# Altium schematic symbol library MCU_Texas_MSP430.SchLib: 361 symbols (part 3 of 9)
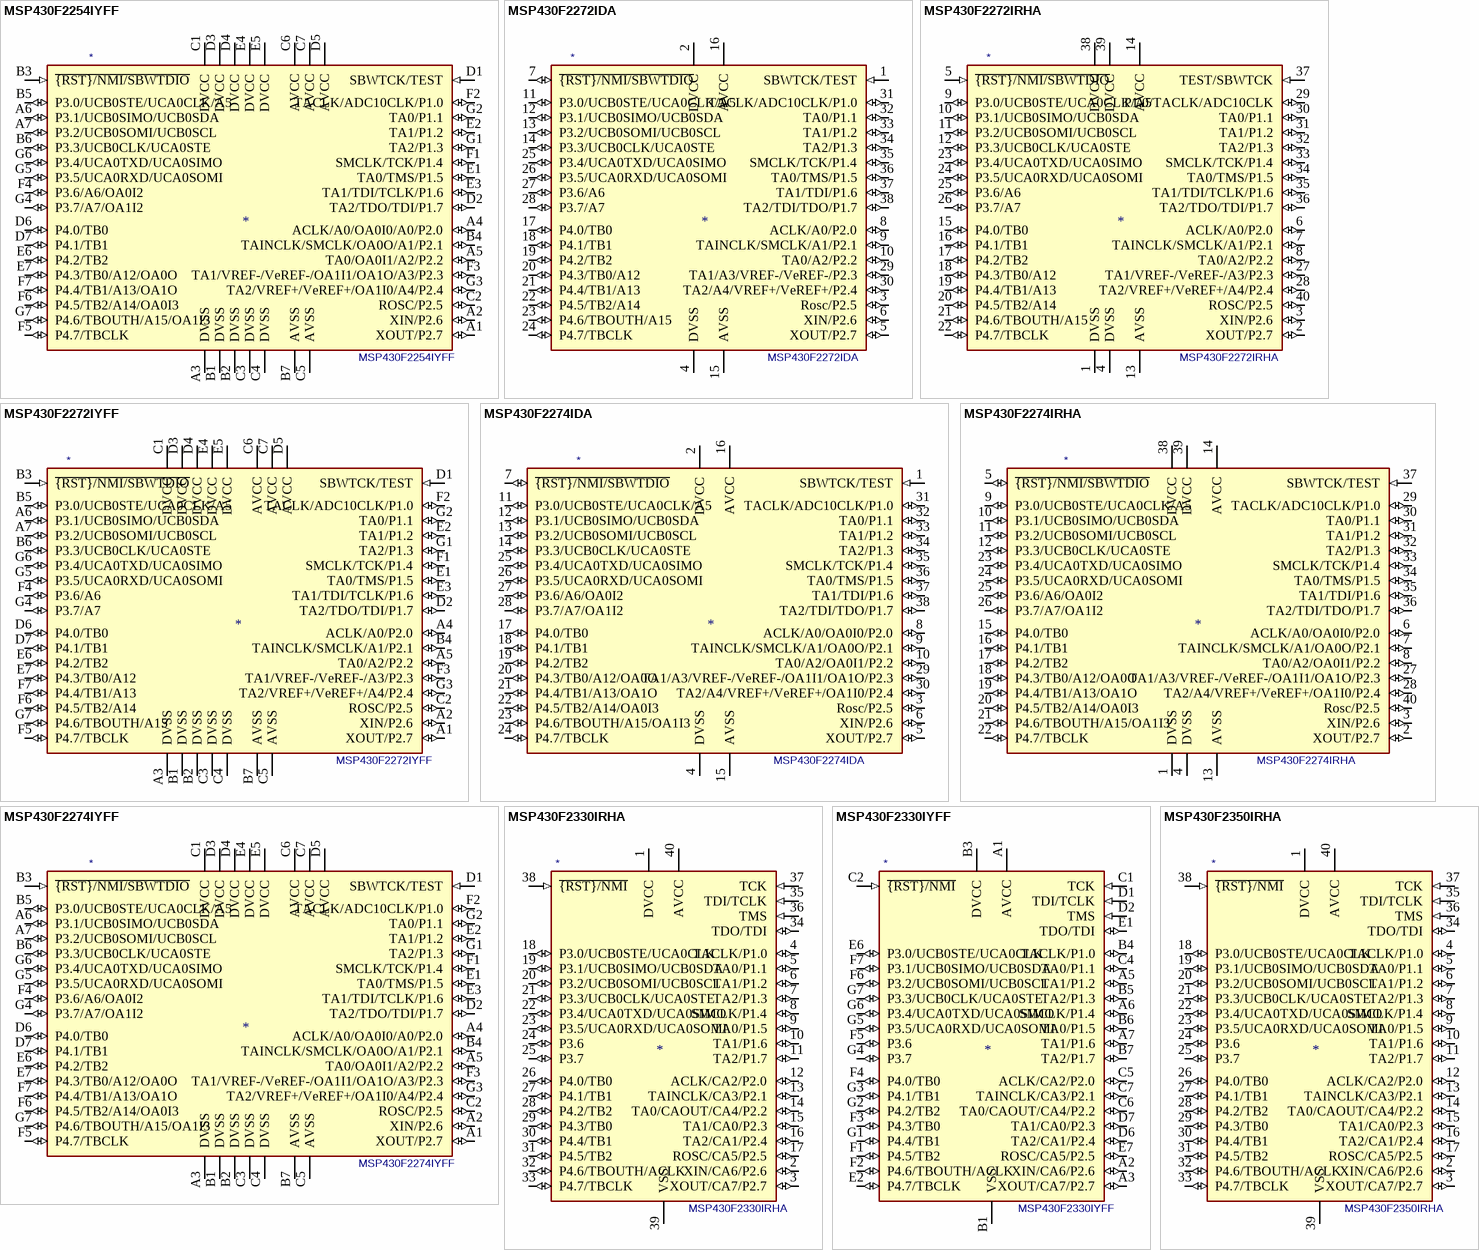
[diagram p36: symbols MSP430F2254IYFF to MSP430F2350IRHA]

## MSP430F2350IRHA
designator *  value MSP430F2350IRHA
ki_keywords: TI MSP430 16-bit mixed signal microcontroller; ki_description: 16kB + 256B Flash, 2kB RAM, QFN-40; ki_fp_filters: Texas*S?PVQFN*; Footprint: Package_DFN_QFN:Texas_S-PVQFN-N40_EP4.15x4.15mm; Supplier: http://www.ti.com/lit/ds/symlink/msp430f2350.pdf
footprint Texas_S-PVQFN-N40_EP4.15x4.15mm
pins: 1 DVCC (power), 2 XIN/CA6/P2.6 (io), 3 XOUT/CA7/P2.7 (io), 4 TACLK/P1.0 (io), 5 TA0/P1.1 (io), 6 TA1/P1.2 (io), 7 TA2/P1.3 (io), 8 SMCLK/P1.4 (io), 9 TA0/P1.5 (io), 10 TA1/P1.6 (io), 11 TA2/P1.7 (io), 12 ACLK/CA2/P2.0 (io), 13 TAINCLK/CA3/P2.1 (io), 14 TA0/CAOUT/CA4/P2.2 (io), 15 TA1/CA0/P2.3 (io), 16 TA2/CA1/P2.4 (io), 17 ROSC/CA5/P2.5 (io), 18 P3.0/UCB0STE/UCA0CLK (io), 19 P3.1/UCB0SIMO/UCB0SDA (io), 20 P3.2/UCB0SOMI/UCB0SCL (io), 21 P3.3/UCB0CLK/UCA0STE (io), 22 P3.4/UCA0TXD/UCA0SIMO (io), 23 P3.5/UCA0RXD/UCA0SOMI (io), 24 P3.6 (io), 25 P3.7 (io), 26 P4.0/TB0 (io), 27 P4.1/TB1 (io), 28 P4.2/TB2 (io), 29 P4.3/TB0 (io), 30 P4.4/TB1 (io), 31 P4.5/TB2 (io), 32 P4.6/TBOUTH/ACLK (io), 33 P4.7/TBCLK (io), 34 TDO/TDI (io), 35 TDI/TCLK (in), 36 TMS (in), 37 TCK (in), 38 ~{{RST}/NMI} (in), 39 VSS (power), 40 AVCC (power)

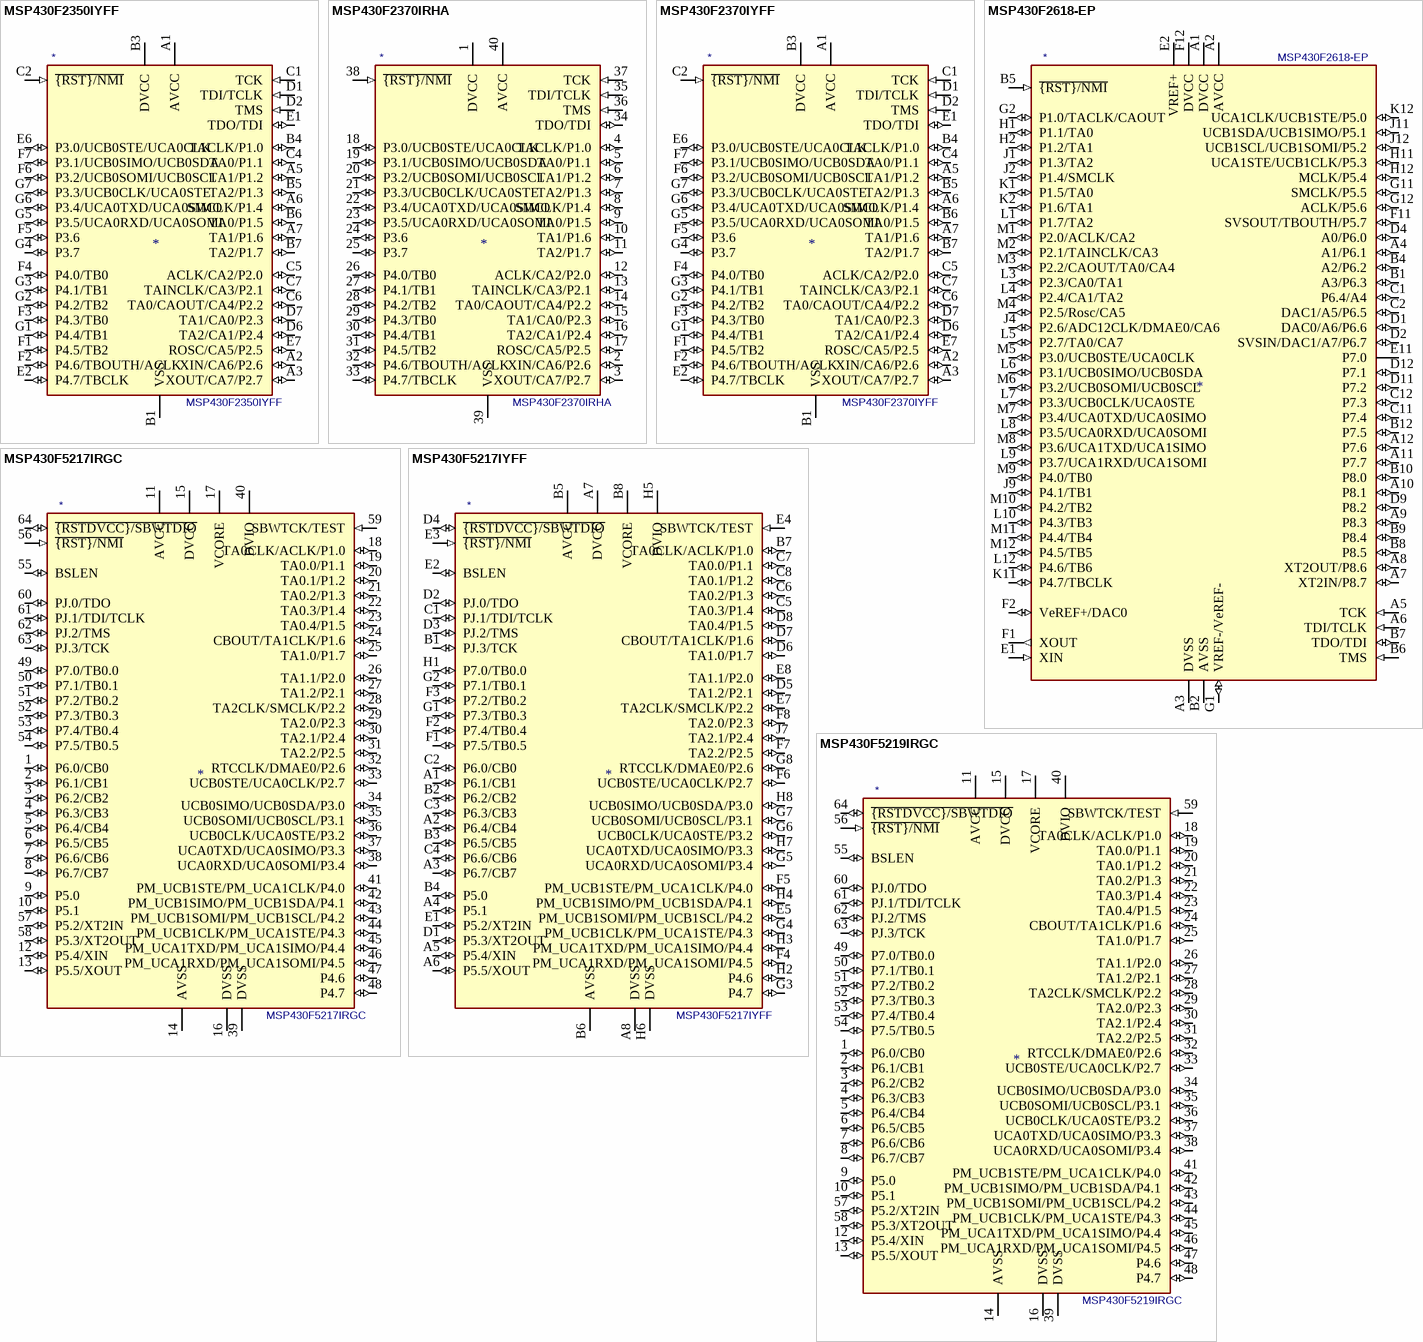
[diagram p7: symbols MSP430F2350IYFF to MSP430F5219IRGC]

## MSP430F2350IYFF
designator *  value MSP430F2350IYFF
ki_keywords: TI MSP430 16-bit mixed signal microcontroller; ki_description: 16kB + 256B Flash, 2kB RAM, BGA-49; ki_fp_filters: Texas*DSBGA*3.33x3.488mm*Layout7x7*P0.4mm*; Footprint: Package_BGA:Texas_DSBGA-49_3.33x3.488mm_Layout7x7_P0.4mm; Supplier: http://www.ti.com/lit/ds/symlink/msp430f2350.pdf
footprint Texas_DSBGA-49_3.33x3.488mm_Layout7x7_P0.4mm
pins: A1 AVCC (power), A2 XIN/CA6/P2.6 (io), A3 XOUT/CA7/P2.7 (io), A5 TA1/P1.2 (io), A6 SMCLK/P1.4 (io), A7 TA1/P1.6 (io), B1 VSS (power), B3 DVCC (power), B4 TACLK/P1.0 (io), B5 TA2/P1.3 (io), B6 TA0/P1.5 (io), B7 TA2/P1.7 (io), C1 TCK (in), C2 ~{{RST}/NMI} (in), C4 TA0/P1.1 (io), C5 ACLK/CA2/P2.0 (io), C6 TA0/CAOUT/CA4/P2.2 (io), C7 TAINCLK/CA3/P2.1 (io), D1 TDI/TCLK (in), D2 TMS (in), D6 TA2/CA1/P2.4 (io), D7 TA1/CA0/P2.3 (io), E1 TDO/TDI (io), E2 P4.7/TBCLK (io), E6 P3.0/UCB0STE/UCA0CLK (io), E7 ROSC/CA5/P2.5 (io), F1 P4.5/TB2 (io), F2 P4.6/TBOUTH/ACLK (io), F3 P4.3/TB0 (io), F4 P4.0/TB0 (io), F5 P3.6 (io), F6 P3.2/UCB0SOMI/UCB0SCL (io), F7 P3.1/UCB0SIMO/UCB0SDA (io), G1 P4.4/TB1 (io), G2 P4.2/TB2 (io), G3 P4.1/TB1 (io), G4 P3.7 (io), G5 P3.5/UCA0RXD/UCA0SOMI (io), G6 P3.4/UCA0TXD/UCA0SIMO (io), G7 P3.3/UCB0CLK/UCA0STE (io)

## MSP430F2370IRHA
designator *  value MSP430F2370IRHA
ki_keywords: TI MSP430 16-bit mixed signal microcontroller; ki_description: 32kB + 256B Flash, 2kB RAM, QFN-40; ki_fp_filters: Texas*S?PVQFN*; Footprint: Package_DFN_QFN:Texas_S-PVQFN-N40_EP4.15x4.15mm; Supplier: http://www.ti.com/lit/ds/symlink/msp430f2370.pdf
footprint Texas_S-PVQFN-N40_EP4.15x4.15mm
pins: 1 DVCC (power), 2 XIN/CA6/P2.6 (io), 3 XOUT/CA7/P2.7 (io), 4 TACLK/P1.0 (io), 5 TA0/P1.1 (io), 6 TA1/P1.2 (io), 7 TA2/P1.3 (io), 8 SMCLK/P1.4 (io), 9 TA0/P1.5 (io), 10 TA1/P1.6 (io), 11 TA2/P1.7 (io), 12 ACLK/CA2/P2.0 (io), 13 TAINCLK/CA3/P2.1 (io), 14 TA0/CAOUT/CA4/P2.2 (io), 15 TA1/CA0/P2.3 (io), 16 TA2/CA1/P2.4 (io), 17 ROSC/CA5/P2.5 (io), 18 P3.0/UCB0STE/UCA0CLK (io), 19 P3.1/UCB0SIMO/UCB0SDA (io), 20 P3.2/UCB0SOMI/UCB0SCL (io), 21 P3.3/UCB0CLK/UCA0STE (io), 22 P3.4/UCA0TXD/UCA0SIMO (io), 23 P3.5/UCA0RXD/UCA0SOMI (io), 24 P3.6 (io), 25 P3.7 (io), 26 P4.0/TB0 (io), 27 P4.1/TB1 (io), 28 P4.2/TB2 (io), 29 P4.3/TB0 (io), 30 P4.4/TB1 (io), 31 P4.5/TB2 (io), 32 P4.6/TBOUTH/ACLK (io), 33 P4.7/TBCLK (io), 34 TDO/TDI (io), 35 TDI/TCLK (in), 36 TMS (in), 37 TCK (in), 38 ~{{RST}/NMI} (in), 39 VSS (power), 40 AVCC (power)

## MSP430F2370IYFF
designator *  value MSP430F2370IYFF
ki_keywords: TI MSP430 16-bit mixed signal microcontroller; ki_description: 32kB + 256B Flash, 2kB RAM, BGA-49; ki_fp_filters: Texas*DSBGA*3.33x3.488mm*Layout7x7*P0.4mm*; Footprint: Package_BGA:Texas_DSBGA-49_3.33x3.488mm_Layout7x7_P0.4mm; Supplier: http://www.ti.com/lit/ds/symlink/msp430f2370.pdf
footprint Texas_DSBGA-49_3.33x3.488mm_Layout7x7_P0.4mm
pins: A1 AVCC (power), A2 XIN/CA6/P2.6 (io), A3 XOUT/CA7/P2.7 (io), A5 TA1/P1.2 (io), A6 SMCLK/P1.4 (io), A7 TA1/P1.6 (io), B1 VSS (power), B3 DVCC (power), B4 TACLK/P1.0 (io), B5 TA2/P1.3 (io), B6 TA0/P1.5 (io), B7 TA2/P1.7 (io), C1 TCK (in), C2 ~{{RST}/NMI} (in), C4 TA0/P1.1 (io), C5 ACLK/CA2/P2.0 (io), C6 TA0/CAOUT/CA4/P2.2 (io), C7 TAINCLK/CA3/P2.1 (io), D1 TDI/TCLK (in), D2 TMS (in), D6 TA2/CA1/P2.4 (io), D7 TA1/CA0/P2.3 (io), E1 TDO/TDI (io), E2 P4.7/TBCLK (io), E6 P3.0/UCB0STE/UCA0CLK (io), E7 ROSC/CA5/P2.5 (io), F1 P4.5/TB2 (io), F2 P4.6/TBOUTH/ACLK (io), F3 P4.3/TB0 (io), F4 P4.0/TB0 (io), F5 P3.6 (io), F6 P3.2/UCB0SOMI/UCB0SCL (io), F7 P3.1/UCB0SIMO/UCB0SDA (io), G1 P4.4/TB1 (io), G2 P4.2/TB2 (io), G3 P4.1/TB1 (io), G4 P3.7 (io), G5 P3.5/UCA0RXD/UCA0SOMI (io), G6 P3.4/UCA0TXD/UCA0SIMO (io), G7 P3.3/UCB0CLK/UCA0STE (io)

## MSP430F2618-EP
designator *  value MSP430F2618-EP
ki_keywords: TI MSP430 16-bit mixed signal microcontroller; ki_description: 116kB + 256B Flash, 8K RAM, 113-BGA; ki_fp_filters: Texas*BGA*113*7.0x7.0mm*Layout12x12*P0.5mm*; Footprint: Package_BGA:Texas_MicroStar_Junior_BGA-113_7.0x7.0mm_Layout12x12_P0.5mm; Supplier: http://www.ti.com/lit/ds/symlink/msp430f2618-ep.pdf
footprint Texas_MicroStar_Junior_BGA-113_7.0x7.0mm_Layout12x12_P0.5mm
pins: A1 DVCC (power), A2 AVCC (power), A3 DVSS (power), A4 A1/P6.1 (io), A5 TCK (in), A6 TDI/TCLK (in), A7 XT2IN/P8.7 (io), A8 XT2OUT/P8.6 (io), A9 P8.3 (io), A10 P8.1 (io), A11 P7.7 (io), A12 P7.6 (io), B1 A3/P6.3 (io), B2 AVSS (power), B3 AVSS (power) hidden, B4 A2/P6.2 (io), B5 ~{{RST}/NMI} (in), B6 TMS (in), B7 TDO/TDI (io), B8 P8.5 (io), B9 P8.4 (io), B10 P8.0 (io), B11 DVSS (power) hidden, B12 P7.5 (io), C1 P6.4/A4 (io), C2 DAC1/A5/P6.5 (io), C3 DAC1/A5/P6.5 (io) hidden, C11 P7.4 (io), C12 P7.3 (io), D1 DAC0/A6/P6.6 (io), D2 SVSIN/DAC1/A7/P6.7 (io), D4 A0/P6.0 (io), D5 DVSS (power) hidden, D6 DVSS (power) hidden, D7 DVSS (power) hidden, D8 DVSS (power) hidden, D9 P8.2 (io), D11 P7.2 (io), D12 P7.1 (io), E1 XIN (in), E2 VREF+ (power), E4 DVSS (power) hidden, E5 DVSS (power) hidden, E6 DVSS (power) hidden, E7 DVSS (power) hidden, E8 DVSS (power) hidden, E9 DVSS (power) hidden, E11 P7.0 (power), E12 DVSS (power) hidden, F1 XOUT (out), F2 VeREF+/DAC0 (io), F4 DVSS (power) hidden, F5 DVSS (power) hidden, F8 DVSS (power) hidden, F9 DVSS (power) hidden, F11 SVSOUT/TBOUTH/P5.7 (io), F12 DVCC (power), G1 VREF-/VeREF- (io), G2 P1.0/TACLK/CAOUT (io), G4 DVSS (power) hidden, G5 DVSS (power) hidden, G8 DVSS (power) hidden, G9 DVSS (power) hidden, G11 SMCLK/P5.5 (io), G12 ACLK/P5.6 (io), H1 P1.1/TA0 (io), H2 P1.2/TA1 (io), H4 DVSS (power) hidden, H5 DVSS (power) hidden, H6 DVSS (power) hidden, H7 DVSS (power) hidden, H8 DVSS (power) hidden, H9 DVSS (power) hidden, H11 UCA1STE/UCB1CLK/P5.3 (io), H12 MCLK/P5.4 (io), J1 P1.3/TA2 (io), J2 P1.4/SMCLK (io), J4 P2.6/ADC12CLK/DMAE0/CA6 (io), J5 DVSS (power) hidden, J6 DVSS (power) hidden, J7 DVSS (power) hidden, J8 DVSS (power) hidden, J9 P4.1/TB1 (io), J11 UCB1SDA/UCB1SIMO/P5.1 (io), J12 UCB1SCL/UCB1SOMI/P5.2 (io), K1 P1.5/TA0 (io), K2 P1.6/TA1 (io), K11 P4.7/TBCLK (io), K12 UCA1CLK/UCB1STE/P5.0 (io), L1 P1.7/TA2 (io), L2 DVSS (power) hidden, L3 P2.3/CA0/TA1 (io), L4 P2.4/CA1/TA2 (io), L5 P2.7/TA0/CA7 (io), L6 P3.1/UCB0SIMO/UCB0SDA (io), L7 P3.3/UCB0CLK/UCA0STE (io), L8 P3.5/UCA0RXD/UCA0SOMI (io), L9 P3.7/UCA1RXD/UCA1SOMI (io), L10 P4.3/TB3 (io), L11 DVSS (power) hidden, L12 P4.6/TB6 (io), M1 P2.0/ACLK/CA2 (io), M2 P2.1/TAINCLK/CA3 (io), M3 P2.2/CAOUT/TA0/CA4 (io), M4 P2.5/Rosc/CA5 (io), M5 P3.0/UCB0STE/UCA0CLK (io), M6 P3.2/UCB0SOMI/UCB0SCL (io), M7 P3.4/UCA0TXD/UCA0SIMO (io), M8 P3.6/UCA1TXD/UCA1SIMO (io), M9 P4.0/TB0 (io), M10 P4.2/TB2 (io), M11 P4.4/TB4 (io), M12 P4.5/TB5 (io)

## MSP430F5217IRGC
designator *  value MSP430F5217IRGC
ki_keywords: TI MSP430 16-bit mixed signal microcontroller; ki_description: 64kB Flash, 8kB RAM, QFN-64; ki_fp_filters: Texas*S?PVQFN*; Footprint: Package_DFN_QFN:Texas_S-PVQFN-N64_EP4.25x4.25mm; Supplier: http://www.ti.com/lit/ds/symlink/msp430f5217.pdf
footprint Texas_S-PVQFN-N64_EP4.25x4.25mm
pins: 1 P6.0/CB0 (io), 2 P6.1/CB1 (io), 3 P6.2/CB2 (io), 4 P6.3/CB3 (io), 5 P6.4/CB4 (io), 6 P6.5/CB5 (io), 7 P6.6/CB6 (io), 8 P6.7/CB7 (io), 9 P5.0 (io), 10 P5.1 (io), 11 AVCC (power), 12 P5.4/XIN (io), 13 P5.5/XOUT (io), 14 AVSS (power), 15 DVCC (power), 16 DVSS (power), 17 VCORE (power), 18 TA0CLK/ACLK/P1.0 (io), 19 TA0.0/P1.1 (io), 20 TA0.1/P1.2 (io), 21 TA0.2/P1.3 (io), 22 TA0.3/P1.4 (io), 23 TA0.4/P1.5 (io), 24 CBOUT/TA1CLK/P1.6 (io), 25 TA1.0/P1.7 (io), 26 TA1.1/P2.0 (io), 27 TA1.2/P2.1 (io), 28 TA2CLK/SMCLK/P2.2 (io), 29 TA2.0/P2.3 (io), 30 TA2.1/P2.4 (io), 31 TA2.2/P2.5 (io), 32 RTCCLK/DMAE0/P2.6 (io), 33 UCB0STE/UCA0CLK/P2.7 (io), 34 UCB0SIMO/UCB0SDA/P3.0 (io), 35 UCB0SOMI/UCB0SCL/P3.1 (io), 36 UCB0CLK/UCA0STE/P3.2 (io), 37 UCA0TXD/UCA0SIMO/P3.3 (io), 38 UCA0RXD/UCA0SOMI/P3.4 (io), 39 DVSS (power), 40 DVIO (power), 41 PM_UCB1STE/PM_UCA1CLK/P4.0 (io), 42 PM_UCB1SIMO/PM_UCB1SDA/P4.1 (io), 43 PM_UCB1SOMI/PM_UCB1SCL/P4.2 (io), 44 PM_UCB1CLK/PM_UCA1STE/P4.3 (io), 45 PM_UCA1TXD/PM_UCA1SIMO/P4.4 (io), 46 PM_UCA1RXD/PM_UCA1SOMI/P4.5 (io), 47 P4.6 (io), 48 P4.7 (io), 49 P7.0/TB0.0 (io), 50 P7.1/TB0.1 (io), 51 P7.2/TB0.2 (io), 52 P7.3/TB0.3 (io), 53 P7.4/TB0.4 (io), 54 P7.5/TB0.5 (io), 55 BSLEN (io), 56 ~{{RST}/NMI} (in), 57 P5.2/XT2IN (io), 58 P5.3/XT2OUT (io), 59 SBWTCK/TEST (in), 60 PJ.0/TDO (io), 61 PJ.1/TDI/TCLK (io), 62 PJ.2/TMS (io), 63 PJ.3/TCK (io), 64 ~{{RSTDVCC}/SBWTDIO} (io)

## MSP430F5217IYFF
designator *  value MSP430F5217IYFF
ki_keywords: TI MSP430 16-bit mixed signal microcontroller; ki_description: 64kB Flash, 8kB RAM, BGA-64; ki_fp_filters: Texas*DSBGA*3.415x3.535mm*Layout8x8*P0.4mm*; Footprint: Package_BGA:Texas_DSBGA-64_3.415x3.535mm_Layout8x8_P0.4mm; Supplier: http://www.ti.com/lit/ds/symlink/msp430f5217.pdf
footprint Texas_DSBGA-64_3.415x3.535mm_Layout8x8_P0.4mm
pins: A1 P6.1/CB1 (io), A2 P6.4/CB4 (io), A3 P6.7/CB7 (io), A4 P5.1 (io), A5 P5.4/XIN (io), A6 P5.5/XOUT (io), A7 DVCC (power), A8 DVSS (power), B1 PJ.3/TCK (io), B2 P6.2/CB2 (io), B3 P6.5/CB5 (io), B4 P5.0 (io), B5 AVCC (power), B6 AVSS (power), B7 TA0CLK/ACLK/P1.0 (io), B8 VCORE (power), C1 PJ.1/TDI/TCLK (io), C2 P6.0/CB0 (io), C3 P6.3/CB3 (io), C4 P6.6/CB6 (io), C5 TA0.3/P1.4 (io), C6 TA0.2/P1.3 (io), C7 TA0.0/P1.1 (io), C8 TA0.1/P1.2 (io), D1 P5.3/XT2OUT (io), D2 PJ.0/TDO (io), D3 PJ.2/TMS (io), D4 ~{{RSTDVCC}/SBWTDIO} (io), D5 TA1.2/P2.1 (io), D6 TA1.0/P1.7 (io), D7 CBOUT/TA1CLK/P1.6 (io), D8 TA0.4/P1.5 (io), E1 P5.2/XT2IN (io), E2 BSLEN (io), E3 ~{{RST}/NMI} (in), E4 SBWTCK/TEST (in), E5 PM_UCB1SOMI/PM_UCB1SCL/P4.2 (io), E7 TA2CLK/SMCLK/P2.2 (io), E8 TA1.1/P2.0 (io), F1 P7.5/TB0.5 (io), F2 P7.4/TB0.4 (io), F3 P7.2/TB0.2 (io), F4 PM_UCA1RXD/PM_UCA1SOMI/P4.5 (io), F5 PM_UCB1STE/PM_UCA1CLK/P4.0 (io), F6 UCB0STE/UCA0CLK/P2.7 (io), F7 TA2.2/P2.5 (io), F8 TA2.0/P2.3 (io), G1 P7.3/TB0.3 (io), G2 P7.1/TB0.1 (io), G3 P4.7 (io), G4 PM_UCB1CLK/PM_UCA1STE/P4.3 (io), G5 UCA0RXD/UCA0SOMI/P3.4 (io), G6 UCB0CLK/UCA0STE/P3.2 (io), G7 UCB0SOMI/UCB0SCL/P3.1 (io), G8 RTCCLK/DMAE0/P2.6 (io), H1 P7.0/TB0.0 (io), H2 P4.6 (io), H3 PM_UCA1TXD/PM_UCA1SIMO/P4.4 (io), H4 PM_UCB1SIMO/PM_UCB1SDA/P4.1 (io), H5 DVIO (power), H6 DVSS (power), H7 UCA0TXD/UCA0SIMO/P3.3 (io), H8 UCB0SIMO/UCB0SDA/P3.0 (io), J7 TA2.1/P2.4 (io)

## MSP430F5219IRGC
designator *  value MSP430F5219IRGC
ki_keywords: TI MSP430 16-bit mixed signal microcontroller; ki_description: 128kB Flash, 8kB RAM, QFN-64; ki_fp_filters: Texas*S?PVQFN*; Footprint: Package_DFN_QFN:Texas_S-PVQFN-N64_EP4.25x4.25mm; Supplier: http://www.ti.com/lit/ds/symlink/msp430f5219.pdf
footprint Texas_S-PVQFN-N64_EP4.25x4.25mm
pins: 1 P6.0/CB0 (io), 2 P6.1/CB1 (io), 3 P6.2/CB2 (io), 4 P6.3/CB3 (io), 5 P6.4/CB4 (io), 6 P6.5/CB5 (io), 7 P6.6/CB6 (io), 8 P6.7/CB7 (io), 9 P5.0 (io), 10 P5.1 (io), 11 AVCC (power), 12 P5.4/XIN (io), 13 P5.5/XOUT (io), 14 AVSS (power), 15 DVCC (power), 16 DVSS (power), 17 VCORE (power), 18 TA0CLK/ACLK/P1.0 (io), 19 TA0.0/P1.1 (io), 20 TA0.1/P1.2 (io), 21 TA0.2/P1.3 (io), 22 TA0.3/P1.4 (io), 23 TA0.4/P1.5 (io), 24 CBOUT/TA1CLK/P1.6 (io), 25 TA1.0/P1.7 (io), 26 TA1.1/P2.0 (io), 27 TA1.2/P2.1 (io), 28 TA2CLK/SMCLK/P2.2 (io), 29 TA2.0/P2.3 (io), 30 TA2.1/P2.4 (io), 31 TA2.2/P2.5 (io), 32 RTCCLK/DMAE0/P2.6 (io), 33 UCB0STE/UCA0CLK/P2.7 (io), 34 UCB0SIMO/UCB0SDA/P3.0 (io), 35 UCB0SOMI/UCB0SCL/P3.1 (io), 36 UCB0CLK/UCA0STE/P3.2 (io), 37 UCA0TXD/UCA0SIMO/P3.3 (io), 38 UCA0RXD/UCA0SOMI/P3.4 (io), 39 DVSS (power), 40 DVIO (power), 41 PM_UCB1STE/PM_UCA1CLK/P4.0 (io), 42 PM_UCB1SIMO/PM_UCB1SDA/P4.1 (io), 43 PM_UCB1SOMI/PM_UCB1SCL/P4.2 (io), 44 PM_UCB1CLK/PM_UCA1STE/P4.3 (io), 45 PM_UCA1TXD/PM_UCA1SIMO/P4.4 (io), 46 PM_UCA1RXD/PM_UCA1SOMI/P4.5 (io), 47 P4.6 (io), 48 P4.7 (io), 49 P7.0/TB0.0 (io), 50 P7.1/TB0.1 (io), 51 P7.2/TB0.2 (io), 52 P7.3/TB0.3 (io), 53 P7.4/TB0.4 (io), 54 P7.5/TB0.5 (io), 55 BSLEN (io), 56 ~{{RST}/NMI} (in), 57 P5.2/XT2IN (io), 58 P5.3/XT2OUT (io), 59 SBWTCK/TEST (in), 60 PJ.0/TDO (io), 61 PJ.1/TDI/TCLK (io), 62 PJ.2/TMS (io), 63 PJ.3/TCK (io), 64 ~{{RSTDVCC}/SBWTDIO} (io)

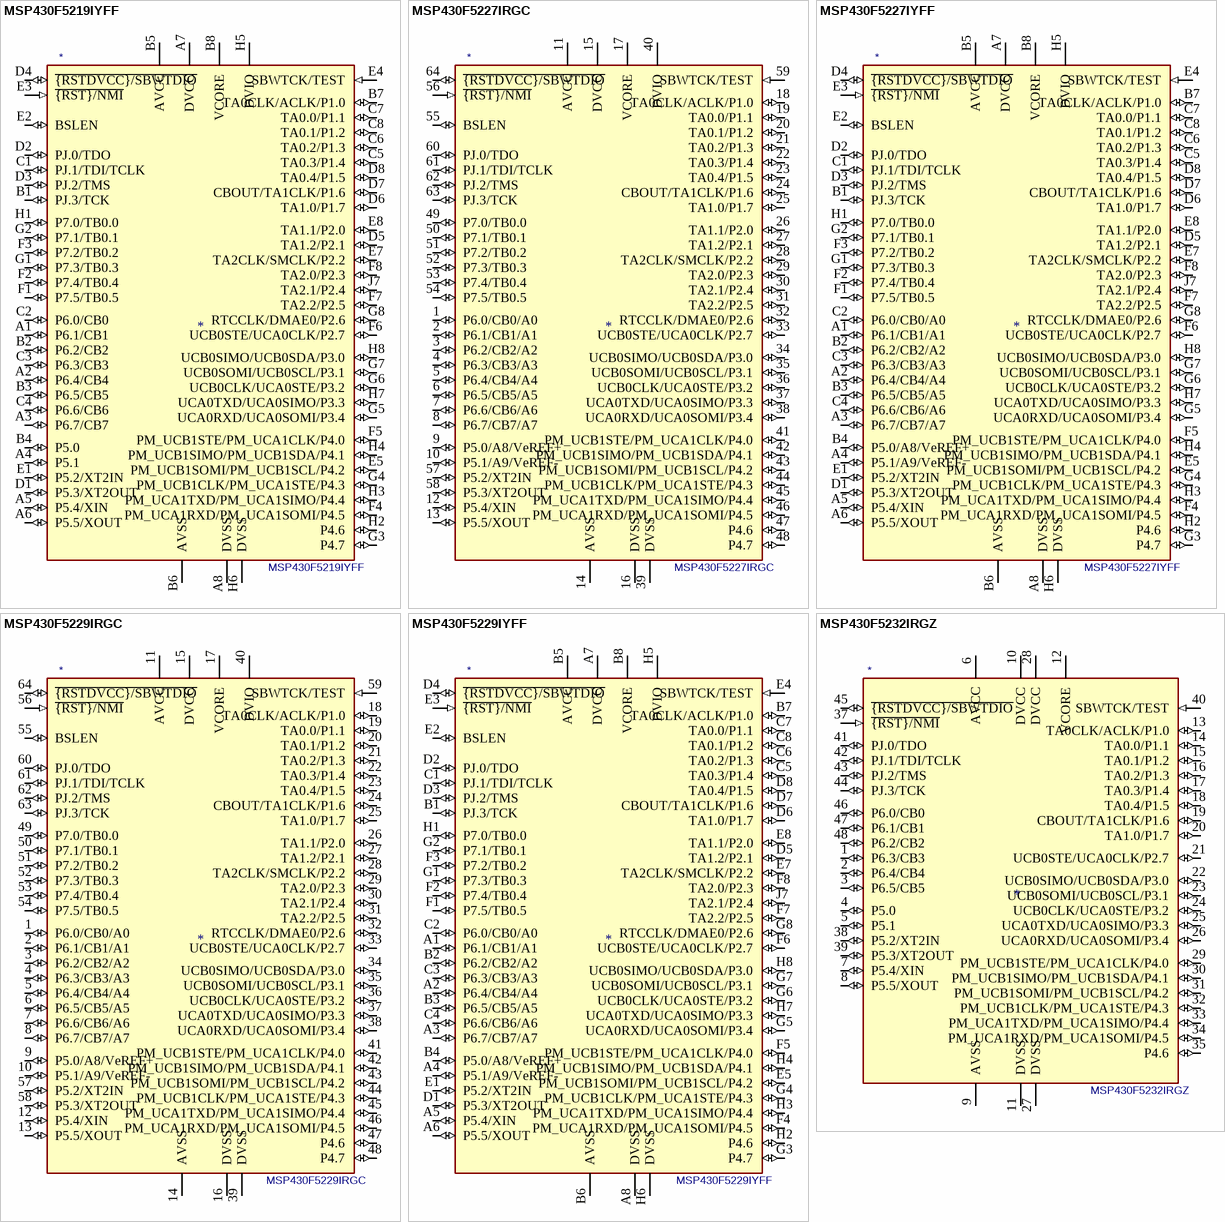
[diagram p8: symbols MSP430F5219IYFF to MSP430F5232IRGZ]

## MSP430F5219IYFF
designator *  value MSP430F5219IYFF
ki_keywords: TI MSP430 16-bit mixed signal microcontroller; ki_description: 128kB Flash, 8kB RAM, BGA-64; ki_fp_filters: Texas*DSBGA*3.415x3.535mm*Layout8x8*P0.4mm*; Footprint: Package_BGA:Texas_DSBGA-64_3.415x3.535mm_Layout8x8_P0.4mm; Supplier: http://www.ti.com/lit/ds/symlink/msp430f5219.pdf
footprint Texas_DSBGA-64_3.415x3.535mm_Layout8x8_P0.4mm
pins: A1 P6.1/CB1 (io), A2 P6.4/CB4 (io), A3 P6.7/CB7 (io), A4 P5.1 (io), A5 P5.4/XIN (io), A6 P5.5/XOUT (io), A7 DVCC (power), A8 DVSS (power), B1 PJ.3/TCK (io), B2 P6.2/CB2 (io), B3 P6.5/CB5 (io), B4 P5.0 (io), B5 AVCC (power), B6 AVSS (power), B7 TA0CLK/ACLK/P1.0 (io), B8 VCORE (power), C1 PJ.1/TDI/TCLK (io), C2 P6.0/CB0 (io), C3 P6.3/CB3 (io), C4 P6.6/CB6 (io), C5 TA0.3/P1.4 (io), C6 TA0.2/P1.3 (io), C7 TA0.0/P1.1 (io), C8 TA0.1/P1.2 (io), D1 P5.3/XT2OUT (io), D2 PJ.0/TDO (io), D3 PJ.2/TMS (io), D4 ~{{RSTDVCC}/SBWTDIO} (io), D5 TA1.2/P2.1 (io), D6 TA1.0/P1.7 (io), D7 CBOUT/TA1CLK/P1.6 (io), D8 TA0.4/P1.5 (io), E1 P5.2/XT2IN (io), E2 BSLEN (io), E3 ~{{RST}/NMI} (in), E4 SBWTCK/TEST (in), E5 PM_UCB1SOMI/PM_UCB1SCL/P4.2 (io), E7 TA2CLK/SMCLK/P2.2 (io), E8 TA1.1/P2.0 (io), F1 P7.5/TB0.5 (io), F2 P7.4/TB0.4 (io), F3 P7.2/TB0.2 (io), F4 PM_UCA1RXD/PM_UCA1SOMI/P4.5 (io), F5 PM_UCB1STE/PM_UCA1CLK/P4.0 (io), F6 UCB0STE/UCA0CLK/P2.7 (io), F7 TA2.2/P2.5 (io), F8 TA2.0/P2.3 (io), G1 P7.3/TB0.3 (io), G2 P7.1/TB0.1 (io), G3 P4.7 (io), G4 PM_UCB1CLK/PM_UCA1STE/P4.3 (io), G5 UCA0RXD/UCA0SOMI/P3.4 (io), G6 UCB0CLK/UCA0STE/P3.2 (io), G7 UCB0SOMI/UCB0SCL/P3.1 (io), G8 RTCCLK/DMAE0/P2.6 (io), H1 P7.0/TB0.0 (io), H2 P4.6 (io), H3 PM_UCA1TXD/PM_UCA1SIMO/P4.4 (io), H4 PM_UCB1SIMO/PM_UCB1SDA/P4.1 (io), H5 DVIO (power), H6 DVSS (power), H7 UCA0TXD/UCA0SIMO/P3.3 (io), H8 UCB0SIMO/UCB0SDA/P3.0 (io), J7 TA2.1/P2.4 (io)

## MSP430F5227IRGC
designator *  value MSP430F5227IRGC
ki_keywords: TI MSP430 16-bit mixed signal microcontroller; ki_description: 64kB Flash, 8kB RAM, QFN-64; ki_fp_filters: Texas*S?PVQFN*; Footprint: Package_DFN_QFN:Texas_S-PVQFN-N64_EP4.25x4.25mm; Supplier: http://www.ti.com/lit/ds/symlink/msp430f5227.pdf
footprint Texas_S-PVQFN-N64_EP4.25x4.25mm
pins: 1 P6.0/CB0/A0 (io), 2 P6.1/CB1/A1 (io), 3 P6.2/CB2/A2 (io), 4 P6.3/CB3/A3 (io), 5 P6.4/CB4/A4 (io), 6 P6.5/CB5/A5 (io), 7 P6.6/CB6/A6 (io), 8 P6.7/CB7/A7 (io), 9 P5.0/A8/VeREF+ (io), 10 P5.1/A9/VeREF- (io), 11 AVCC (power), 12 P5.4/XIN (io), 13 P5.5/XOUT (io), 14 AVSS (power), 15 DVCC (power), 16 DVSS (power), 17 VCORE (power), 18 TA0CLK/ACLK/P1.0 (io), 19 TA0.0/P1.1 (io), 20 TA0.1/P1.2 (io), 21 TA0.2/P1.3 (io), 22 TA0.3/P1.4 (io), 23 TA0.4/P1.5 (io), 24 CBOUT/TA1CLK/P1.6 (io), 25 TA1.0/P1.7 (io), 26 TA1.1/P2.0 (io), 27 TA1.2/P2.1 (io), 28 TA2CLK/SMCLK/P2.2 (io), 29 TA2.0/P2.3 (io), 30 TA2.1/P2.4 (io), 31 TA2.2/P2.5 (io), 32 RTCCLK/DMAE0/P2.6 (io), 33 UCB0STE/UCA0CLK/P2.7 (io), 34 UCB0SIMO/UCB0SDA/P3.0 (io), 35 UCB0SOMI/UCB0SCL/P3.1 (io), 36 UCB0CLK/UCA0STE/P3.2 (io), 37 UCA0TXD/UCA0SIMO/P3.3 (io), 38 UCA0RXD/UCA0SOMI/P3.4 (io), 39 DVSS (power), 40 DVIO (power), 41 PM_UCB1STE/PM_UCA1CLK/P4.0 (io), 42 PM_UCB1SIMO/PM_UCB1SDA/P4.1 (io), 43 PM_UCB1SOMI/PM_UCB1SCL/P4.2 (io), 44 PM_UCB1CLK/PM_UCA1STE/P4.3 (io), 45 PM_UCA1TXD/PM_UCA1SIMO/P4.4 (io), 46 PM_UCA1RXD/PM_UCA1SOMI/P4.5 (io), 47 P4.6 (io), 48 P4.7 (io), 49 P7.0/TB0.0 (io), 50 P7.1/TB0.1 (io), 51 P7.2/TB0.2 (io), 52 P7.3/TB0.3 (io), 53 P7.4/TB0.4 (io), 54 P7.5/TB0.5 (io), 55 BSLEN (io), 56 ~{{RST}/NMI} (in), 57 P5.2/XT2IN (io), 58 P5.3/XT2OUT (io), 59 SBWTCK/TEST (in), 60 PJ.0/TDO (io), 61 PJ.1/TDI/TCLK (io), 62 PJ.2/TMS (io), 63 PJ.3/TCK (io), 64 ~{{RSTDVCC}/SBWTDIO} (io)

## MSP430F5227IYFF
designator *  value MSP430F5227IYFF
ki_keywords: TI MSP430 16-bit mixed signal microcontroller; ki_description: 64kB Flash, 8kB RAM, BGA-64; ki_fp_filters: Texas*DSBGA*3.415x3.535mm*Layout8x8*P0.4mm*; Footprint: Package_BGA:Texas_DSBGA-64_3.415x3.535mm_Layout8x8_P0.4mm; Supplier: http://www.ti.com/lit/ds/symlink/msp430f5227.pdf
footprint Texas_DSBGA-64_3.415x3.535mm_Layout8x8_P0.4mm
pins: A1 P6.1/CB1/A1 (io), A2 P6.4/CB4/A4 (io), A3 P6.7/CB7/A7 (io), A4 P5.1/A9/VeREF- (io), A5 P5.4/XIN (io), A6 P5.5/XOUT (io), A7 DVCC (power), A8 DVSS (power), B1 PJ.3/TCK (io), B2 P6.2/CB2/A2 (io), B3 P6.5/CB5/A5 (io), B4 P5.0/A8/VeREF+ (io), B5 AVCC (power), B6 AVSS (power), B7 TA0CLK/ACLK/P1.0 (io), B8 VCORE (power), C1 PJ.1/TDI/TCLK (io), C2 P6.0/CB0/A0 (io), C3 P6.3/CB3/A3 (io), C4 P6.6/CB6/A6 (io), C5 TA0.3/P1.4 (io), C6 TA0.2/P1.3 (io), C7 TA0.0/P1.1 (io), C8 TA0.1/P1.2 (io), D1 P5.3/XT2OUT (io), D2 PJ.0/TDO (io), D3 PJ.2/TMS (io), D4 ~{{RSTDVCC}/SBWTDIO} (io), D5 TA1.2/P2.1 (io), D6 TA1.0/P1.7 (io), D7 CBOUT/TA1CLK/P1.6 (io), D8 TA0.4/P1.5 (io), E1 P5.2/XT2IN (io), E2 BSLEN (io), E3 ~{{RST}/NMI} (in), E4 SBWTCK/TEST (in), E5 PM_UCB1SOMI/PM_UCB1SCL/P4.2 (io), E7 TA2CLK/SMCLK/P2.2 (io), E8 TA1.1/P2.0 (io), F1 P7.5/TB0.5 (io), F2 P7.4/TB0.4 (io), F3 P7.2/TB0.2 (io), F4 PM_UCA1RXD/PM_UCA1SOMI/P4.5 (io), F5 PM_UCB1STE/PM_UCA1CLK/P4.0 (io), F6 UCB0STE/UCA0CLK/P2.7 (io), F7 TA2.2/P2.5 (io), F8 TA2.0/P2.3 (io), G1 P7.3/TB0.3 (io), G2 P7.1/TB0.1 (io), G3 P4.7 (io), G4 PM_UCB1CLK/PM_UCA1STE/P4.3 (io), G5 UCA0RXD/UCA0SOMI/P3.4 (io), G6 UCB0CLK/UCA0STE/P3.2 (io), G7 UCB0SOMI/UCB0SCL/P3.1 (io), G8 RTCCLK/DMAE0/P2.6 (io), H1 P7.0/TB0.0 (io), H2 P4.6 (io), H3 PM_UCA1TXD/PM_UCA1SIMO/P4.4 (io), H4 PM_UCB1SIMO/PM_UCB1SDA/P4.1 (io), H5 DVIO (power), H6 DVSS (power), H7 UCA0TXD/UCA0SIMO/P3.3 (io), H8 UCB0SIMO/UCB0SDA/P3.0 (io), J7 TA2.1/P2.4 (io)

## MSP430F5229IRGC
designator *  value MSP430F5229IRGC
ki_keywords: TI MSP430 16-bit mixed signal microcontroller; ki_description: 128kB Flash, 8kB RAM, QFN-64; ki_fp_filters: Texas*S?PVQFN*; Footprint: Package_DFN_QFN:Texas_S-PVQFN-N64_EP4.25x4.25mm; Supplier: http://www.ti.com/lit/ds/symlink/msp430f5229.pdf
footprint Texas_S-PVQFN-N64_EP4.25x4.25mm
pins: 1 P6.0/CB0/A0 (io), 2 P6.1/CB1/A1 (io), 3 P6.2/CB2/A2 (io), 4 P6.3/CB3/A3 (io), 5 P6.4/CB4/A4 (io), 6 P6.5/CB5/A5 (io), 7 P6.6/CB6/A6 (io), 8 P6.7/CB7/A7 (io), 9 P5.0/A8/VeREF+ (io), 10 P5.1/A9/VeREF- (io), 11 AVCC (power), 12 P5.4/XIN (io), 13 P5.5/XOUT (io), 14 AVSS (power), 15 DVCC (power), 16 DVSS (power), 17 VCORE (power), 18 TA0CLK/ACLK/P1.0 (io), 19 TA0.0/P1.1 (io), 20 TA0.1/P1.2 (io), 21 TA0.2/P1.3 (io), 22 TA0.3/P1.4 (io), 23 TA0.4/P1.5 (io), 24 CBOUT/TA1CLK/P1.6 (io), 25 TA1.0/P1.7 (io), 26 TA1.1/P2.0 (io), 27 TA1.2/P2.1 (io), 28 TA2CLK/SMCLK/P2.2 (io), 29 TA2.0/P2.3 (io), 30 TA2.1/P2.4 (io), 31 TA2.2/P2.5 (io), 32 RTCCLK/DMAE0/P2.6 (io), 33 UCB0STE/UCA0CLK/P2.7 (io), 34 UCB0SIMO/UCB0SDA/P3.0 (io), 35 UCB0SOMI/UCB0SCL/P3.1 (io), 36 UCB0CLK/UCA0STE/P3.2 (io), 37 UCA0TXD/UCA0SIMO/P3.3 (io), 38 UCA0RXD/UCA0SOMI/P3.4 (io), 39 DVSS (power), 40 DVIO (power), 41 PM_UCB1STE/PM_UCA1CLK/P4.0 (io), 42 PM_UCB1SIMO/PM_UCB1SDA/P4.1 (io), 43 PM_UCB1SOMI/PM_UCB1SCL/P4.2 (io), 44 PM_UCB1CLK/PM_UCA1STE/P4.3 (io), 45 PM_UCA1TXD/PM_UCA1SIMO/P4.4 (io), 46 PM_UCA1RXD/PM_UCA1SOMI/P4.5 (io), 47 P4.6 (io), 48 P4.7 (io), 49 P7.0/TB0.0 (io), 50 P7.1/TB0.1 (io), 51 P7.2/TB0.2 (io), 52 P7.3/TB0.3 (io), 53 P7.4/TB0.4 (io), 54 P7.5/TB0.5 (io), 55 BSLEN (io), 56 ~{{RST}/NMI} (in), 57 P5.2/XT2IN (io), 58 P5.3/XT2OUT (io), 59 SBWTCK/TEST (in), 60 PJ.0/TDO (io), 61 PJ.1/TDI/TCLK (io), 62 PJ.2/TMS (io), 63 PJ.3/TCK (io), 64 ~{{RSTDVCC}/SBWTDIO} (io)

## MSP430F5229IYFF
designator *  value MSP430F5229IYFF
ki_keywords: TI MSP430 16-bit mixed signal microcontroller; ki_description: 128kB Flash, 8kB RAM, BGA-64; ki_fp_filters: Texas*DSBGA*3.415x3.535mm*Layout8x8*P0.4mm*; Footprint: Package_BGA:Texas_DSBGA-64_3.415x3.535mm_Layout8x8_P0.4mm; Supplier: http://www.ti.com/lit/ds/symlink/msp430f5229.pdf
footprint Texas_DSBGA-64_3.415x3.535mm_Layout8x8_P0.4mm
pins: A1 P6.1/CB1/A1 (io), A2 P6.4/CB4/A4 (io), A3 P6.7/CB7/A7 (io), A4 P5.1/A9/VeREF- (io), A5 P5.4/XIN (io), A6 P5.5/XOUT (io), A7 DVCC (power), A8 DVSS (power), B1 PJ.3/TCK (io), B2 P6.2/CB2/A2 (io), B3 P6.5/CB5/A5 (io), B4 P5.0/A8/VeREF+ (io), B5 AVCC (power), B6 AVSS (power), B7 TA0CLK/ACLK/P1.0 (io), B8 VCORE (power), C1 PJ.1/TDI/TCLK (io), C2 P6.0/CB0/A0 (io), C3 P6.3/CB3/A3 (io), C4 P6.6/CB6/A6 (io), C5 TA0.3/P1.4 (io), C6 TA0.2/P1.3 (io), C7 TA0.0/P1.1 (io), C8 TA0.1/P1.2 (io), D1 P5.3/XT2OUT (io), D2 PJ.0/TDO (io), D3 PJ.2/TMS (io), D4 ~{{RSTDVCC}/SBWTDIO} (io), D5 TA1.2/P2.1 (io), D6 TA1.0/P1.7 (io), D7 CBOUT/TA1CLK/P1.6 (io), D8 TA0.4/P1.5 (io), E1 P5.2/XT2IN (io), E2 BSLEN (io), E3 ~{{RST}/NMI} (in), E4 SBWTCK/TEST (in), E5 PM_UCB1SOMI/PM_UCB1SCL/P4.2 (io), E7 TA2CLK/SMCLK/P2.2 (io), E8 TA1.1/P2.0 (io), F1 P7.5/TB0.5 (io), F2 P7.4/TB0.4 (io), F3 P7.2/TB0.2 (io), F4 PM_UCA1RXD/PM_UCA1SOMI/P4.5 (io), F5 PM_UCB1STE/PM_UCA1CLK/P4.0 (io), F6 UCB0STE/UCA0CLK/P2.7 (io), F7 TA2.2/P2.5 (io), F8 TA2.0/P2.3 (io), G1 P7.3/TB0.3 (io), G2 P7.1/TB0.1 (io), G3 P4.7 (io), G4 PM_UCB1CLK/PM_UCA1STE/P4.3 (io), G5 UCA0RXD/UCA0SOMI/P3.4 (io), G6 UCB0CLK/UCA0STE/P3.2 (io), G7 UCB0SOMI/UCB0SCL/P3.1 (io), G8 RTCCLK/DMAE0/P2.6 (io), H1 P7.0/TB0.0 (io), H2 P4.6 (io), H3 PM_UCA1TXD/PM_UCA1SIMO/P4.4 (io), H4 PM_UCB1SIMO/PM_UCB1SDA/P4.1 (io), H5 DVIO (power), H6 DVSS (power), H7 UCA0TXD/UCA0SIMO/P3.3 (io), H8 UCB0SIMO/UCB0SDA/P3.0 (io), J7 TA2.1/P2.4 (io)

## MSP430F5232IRGZ
designator *  value MSP430F5232IRGZ
ki_keywords: TI MSP430 16-bit mixed signal microcontroller; ki_description: 64kB Flash, 8kB RAM, QFN-48; ki_fp_filters: Texas*S?PVQFN*; Footprint: Package_DFN_QFN:Texas_S-PVQFN-N48_EP5.15x5.15mm; Supplier: http://www.ti.com/lit/ds/symlink/msp430f5232.pdf
footprint Texas_S-PVQFN-N48_EP5.15x5.15mm
pins: 1 P6.3/CB3 (io), 2 P6.4/CB4 (io), 3 P6.5/CB5 (io), 4 P5.0 (io), 5 P5.1 (io), 6 AVCC (power), 7 P5.4/XIN (io), 8 P5.5/XOUT (io), 9 AVSS (power), 10 DVCC (power), 11 DVSS (power), 12 VCORE, 13 TA0CLK/ACLK/P1.0 (io), 14 TA0.0/P1.1 (io), 15 TA0.1/P1.2 (io), 16 TA0.2/P1.3 (io), 17 TA0.3/P1.4 (io), 18 TA0.4/P1.5 (io), 19 CBOUT/TA1CLK/P1.6 (io), 20 TA1.0/P1.7 (io), 21 UCB0STE/UCA0CLK/P2.7 (io), 22 UCB0SIMO/UCB0SDA/P3.0 (io), 23 UCB0SOMI/UCB0SCL/P3.1 (io), 24 UCB0CLK/UCA0STE/P3.2 (io), 25 UCA0TXD/UCA0SIMO/P3.3 (io), 26 UCA0RXD/UCA0SOMI/P3.4 (io), 27 DVSS (power), 28 DVCC (power), 29 PM_UCB1STE/PM_UCA1CLK/P4.0 (io), 30 PM_UCB1SIMO/PM_UCB1SDA/P4.1 (io), 31 PM_UCB1SOMI/PM_UCB1SCL/P4.2 (io), 32 PM_UCB1CLK/PM_UCA1STE/P4.3 (io), 33 PM_UCA1TXD/PM_UCA1SIMO/P4.4 (io), 34 PM_UCA1RXD/PM_UCA1SOMI/P4.5 (io), 35 P4.6 (io), 37 ~{{RST}/NMI} (in), 38 P5.2/XT2IN (io), 39 P5.3/XT2OUT (io), 40 SBWTCK/TEST (in), 41 PJ.0/TDO (io), 42 PJ.1/TDI/TCLK (io), 43 PJ.2/TMS (io), 44 PJ.3/TCK (io), 45 ~{{RSTDVCC}/SBWTDIO} (io), 46 P6.0/CB0 (io), 47 P6.1/CB1 (io), 48 P6.2/CB2 (io)

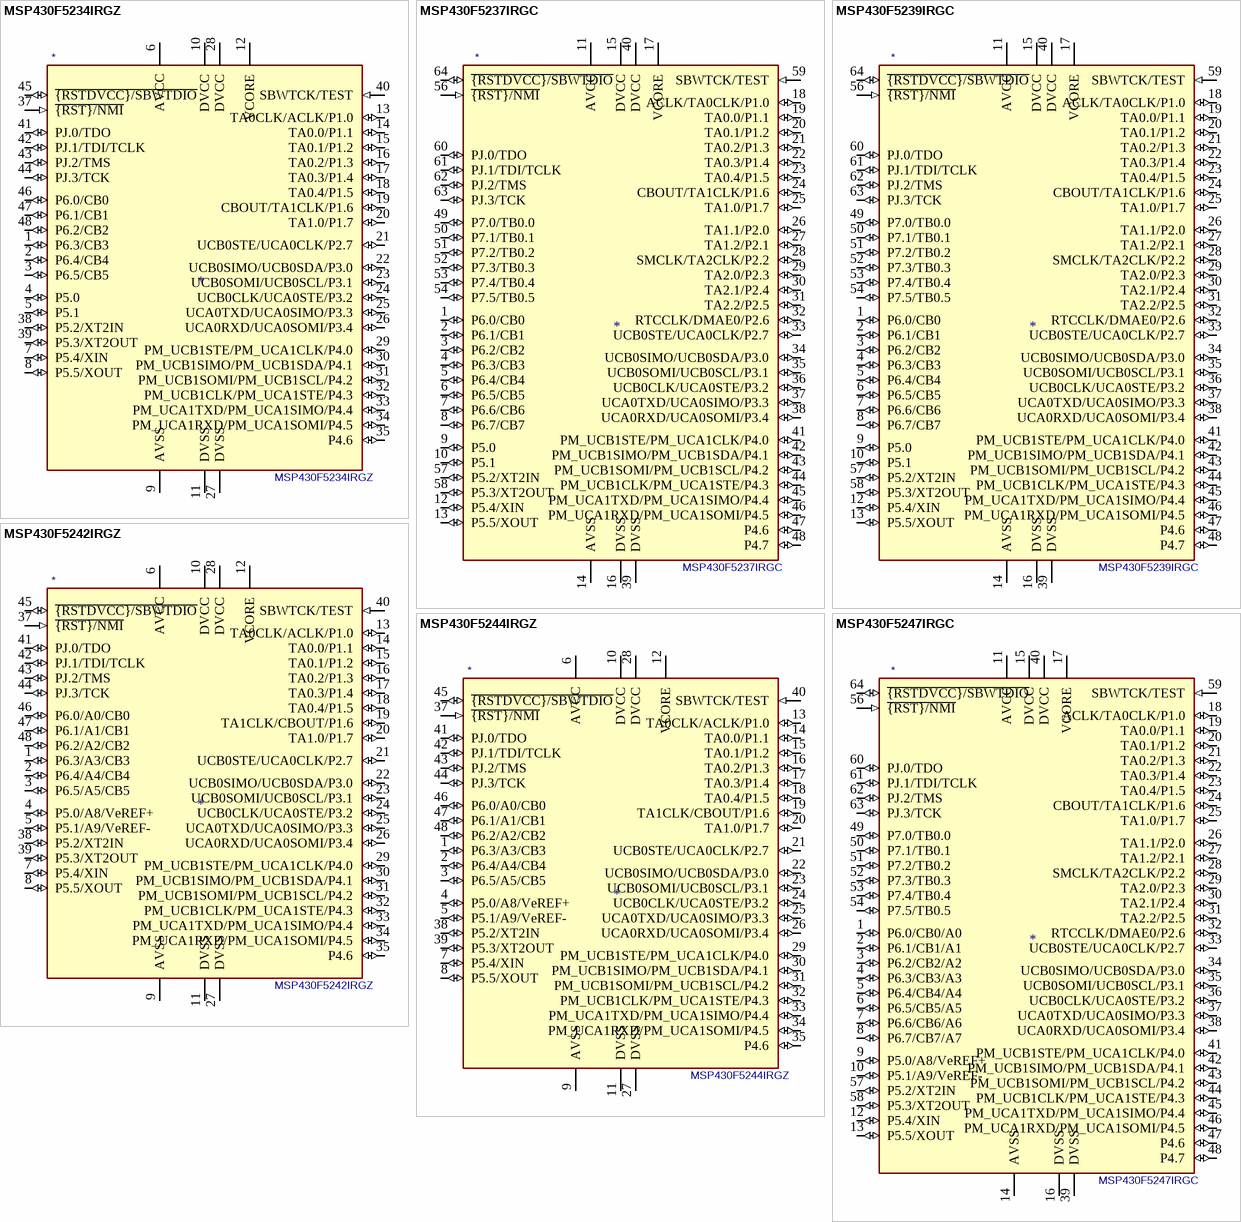
[diagram p9: symbols MSP430F5234IRGZ to MSP430F5247IRGC]

## MSP430F5234IRGZ
designator *  value MSP430F5234IRGZ
ki_keywords: TI MSP430 16-bit mixed signal microcontroller; ki_description: 128kB Flash, 8kB RAM, QFN-48; ki_fp_filters: Texas*S?PVQFN*; Footprint: Package_DFN_QFN:Texas_S-PVQFN-N48_EP5.15x5.15mm; Supplier: http://www.ti.com/lit/ds/symlink/msp430f5234.pdf
footprint Texas_S-PVQFN-N48_EP5.15x5.15mm
pins: 1 P6.3/CB3 (io), 2 P6.4/CB4 (io), 3 P6.5/CB5 (io), 4 P5.0 (io), 5 P5.1 (io), 6 AVCC (power), 7 P5.4/XIN (io), 8 P5.5/XOUT (io), 9 AVSS (power), 10 DVCC (power), 11 DVSS (power), 12 VCORE, 13 TA0CLK/ACLK/P1.0 (io), 14 TA0.0/P1.1 (io), 15 TA0.1/P1.2 (io), 16 TA0.2/P1.3 (io), 17 TA0.3/P1.4 (io), 18 TA0.4/P1.5 (io), 19 CBOUT/TA1CLK/P1.6 (io), 20 TA1.0/P1.7 (io), 21 UCB0STE/UCA0CLK/P2.7 (io), 22 UCB0SIMO/UCB0SDA/P3.0 (io), 23 UCB0SOMI/UCB0SCL/P3.1 (io), 24 UCB0CLK/UCA0STE/P3.2 (io), 25 UCA0TXD/UCA0SIMO/P3.3 (io), 26 UCA0RXD/UCA0SOMI/P3.4 (io), 27 DVSS (power), 28 DVCC (power), 29 PM_UCB1STE/PM_UCA1CLK/P4.0 (io), 30 PM_UCB1SIMO/PM_UCB1SDA/P4.1 (io), 31 PM_UCB1SOMI/PM_UCB1SCL/P4.2 (io), 32 PM_UCB1CLK/PM_UCA1STE/P4.3 (io), 33 PM_UCA1TXD/PM_UCA1SIMO/P4.4 (io), 34 PM_UCA1RXD/PM_UCA1SOMI/P4.5 (io), 35 P4.6 (io), 37 ~{{RST}/NMI} (in), 38 P5.2/XT2IN (io), 39 P5.3/XT2OUT (io), 40 SBWTCK/TEST (in), 41 PJ.0/TDO (io), 42 PJ.1/TDI/TCLK (io), 43 PJ.2/TMS (io), 44 PJ.3/TCK (io), 45 ~{{RSTDVCC}/SBWTDIO} (io), 46 P6.0/CB0 (io), 47 P6.1/CB1 (io), 48 P6.2/CB2 (io)

## MSP430F5237IRGC
designator *  value MSP430F5237IRGC
ki_keywords: TI MSP430 16-bit mixed signal microcontroller; ki_description: 64kB Flash, 8kB RAM, QFN-64; ki_fp_filters: Texas*S?PVQFN*; Footprint: Package_DFN_QFN:Texas_S-PVQFN-N64_EP4.25x4.25mm; Supplier: http://www.ti.com/lit/ds/symlink/msp430f5237.pdf
footprint Texas_S-PVQFN-N64_EP4.25x4.25mm
pins: 1 P6.0/CB0 (io), 2 P6.1/CB1 (io), 3 P6.2/CB2 (io), 4 P6.3/CB3 (io), 5 P6.4/CB4 (io), 6 P6.5/CB5 (io), 7 P6.6/CB6 (io), 8 P6.7/CB7 (io), 9 P5.0 (io), 10 P5.1 (io), 11 AVCC (power), 12 P5.4/XIN (io), 13 P5.5/XOUT (io), 14 AVSS (power), 15 DVCC (power), 16 DVSS (power), 17 VCORE (power), 18 ACLK/TA0CLK/P1.0 (io), 19 TA0.0/P1.1 (io), 20 TA0.1/P1.2 (io), 21 TA0.2/P1.3 (io), 22 TA0.3/P1.4 (io), 23 TA0.4/P1.5 (io), 24 CBOUT/TA1CLK/P1.6 (io), 25 TA1.0/P1.7 (io), 26 TA1.1/P2.0 (io), 27 TA1.2/P2.1 (io), 28 SMCLK/TA2CLK/P2.2 (io), 29 TA2.0/P2.3 (io), 30 TA2.1/P2.4 (io), 31 TA2.2/P2.5 (io), 32 RTCCLK/DMAE0/P2.6 (io), 33 UCB0STE/UCA0CLK/P2.7 (io), 34 UCB0SIMO/UCB0SDA/P3.0 (io), 35 UCB0SOMI/UCB0SCL/P3.1 (io), 36 UCB0CLK/UCA0STE/P3.2 (io), 37 UCA0TXD/UCA0SIMO/P3.3 (io), 38 UCA0RXD/UCA0SOMI/P3.4 (io), 39 DVSS (power), 40 DVCC (power), 41 PM_UCB1STE/PM_UCA1CLK/P4.0 (io), 42 PM_UCB1SIMO/PM_UCB1SDA/P4.1 (io), 43 PM_UCB1SOMI/PM_UCB1SCL/P4.2 (io), 44 PM_UCB1CLK/PM_UCA1STE/P4.3 (io), 45 PM_UCA1TXD/PM_UCA1SIMO/P4.4 (io), 46 PM_UCA1RXD/PM_UCA1SOMI/P4.5 (io), 47 P4.6 (io), 48 P4.7 (io), 49 P7.0/TB0.0 (io), 50 P7.1/TB0.1 (io), 51 P7.2/TB0.2 (io), 52 P7.3/TB0.3 (io), 53 P7.4/TB0.4 (io), 54 P7.5/TB0.5 (io), 56 ~{{RST}/NMI} (in), 57 P5.2/XT2IN (io), 58 P5.3/XT2OUT (io), 59 SBWTCK/TEST (in), 60 PJ.0/TDO (io), 61 PJ.1/TDI/TCLK (io), 62 PJ.2/TMS (io), 63 PJ.3/TCK (io), 64 ~{{RSTDVCC}/SBWTDIO} (io)

## MSP430F5239IRGC
designator *  value MSP430F5239IRGC
ki_keywords: TI MSP430 16-bit mixed signal microcontroller; ki_description: 128kB Flash, 8kB RAM, QFN-64; ki_fp_filters: Texas*S?PVQFN*; Footprint: Package_DFN_QFN:Texas_S-PVQFN-N64_EP4.25x4.25mm; Supplier: http://www.ti.com/lit/ds/symlink/msp430f5239.pdf
footprint Texas_S-PVQFN-N64_EP4.25x4.25mm
pins: 1 P6.0/CB0 (io), 2 P6.1/CB1 (io), 3 P6.2/CB2 (io), 4 P6.3/CB3 (io), 5 P6.4/CB4 (io), 6 P6.5/CB5 (io), 7 P6.6/CB6 (io), 8 P6.7/CB7 (io), 9 P5.0 (io), 10 P5.1 (io), 11 AVCC (power), 12 P5.4/XIN (io), 13 P5.5/XOUT (io), 14 AVSS (power), 15 DVCC (power), 16 DVSS (power), 17 VCORE (power), 18 ACLK/TA0CLK/P1.0 (io), 19 TA0.0/P1.1 (io), 20 TA0.1/P1.2 (io), 21 TA0.2/P1.3 (io), 22 TA0.3/P1.4 (io), 23 TA0.4/P1.5 (io), 24 CBOUT/TA1CLK/P1.6 (io), 25 TA1.0/P1.7 (io), 26 TA1.1/P2.0 (io), 27 TA1.2/P2.1 (io), 28 SMCLK/TA2CLK/P2.2 (io), 29 TA2.0/P2.3 (io), 30 TA2.1/P2.4 (io), 31 TA2.2/P2.5 (io), 32 RTCCLK/DMAE0/P2.6 (io), 33 UCB0STE/UCA0CLK/P2.7 (io), 34 UCB0SIMO/UCB0SDA/P3.0 (io), 35 UCB0SOMI/UCB0SCL/P3.1 (io), 36 UCB0CLK/UCA0STE/P3.2 (io), 37 UCA0TXD/UCA0SIMO/P3.3 (io), 38 UCA0RXD/UCA0SOMI/P3.4 (io), 39 DVSS (power), 40 DVCC (power), 41 PM_UCB1STE/PM_UCA1CLK/P4.0 (io), 42 PM_UCB1SIMO/PM_UCB1SDA/P4.1 (io), 43 PM_UCB1SOMI/PM_UCB1SCL/P4.2 (io), 44 PM_UCB1CLK/PM_UCA1STE/P4.3 (io), 45 PM_UCA1TXD/PM_UCA1SIMO/P4.4 (io), 46 PM_UCA1RXD/PM_UCA1SOMI/P4.5 (io), 47 P4.6 (io), 48 P4.7 (io), 49 P7.0/TB0.0 (io), 50 P7.1/TB0.1 (io), 51 P7.2/TB0.2 (io), 52 P7.3/TB0.3 (io), 53 P7.4/TB0.4 (io), 54 P7.5/TB0.5 (io), 56 ~{{RST}/NMI} (in), 57 P5.2/XT2IN (io), 58 P5.3/XT2OUT (io), 59 SBWTCK/TEST (in), 60 PJ.0/TDO (io), 61 PJ.1/TDI/TCLK (io), 62 PJ.2/TMS (io), 63 PJ.3/TCK (io), 64 ~{{RSTDVCC}/SBWTDIO} (io)

## MSP430F5242IRGZ
designator *  value MSP430F5242IRGZ
ki_keywords: TI MSP430 16-bit mixed signal microcontroller; ki_description: 64kB Flash, 8kB RAM, QFN-48; ki_fp_filters: Texas*S?PVQFN*; Footprint: Package_DFN_QFN:Texas_S-PVQFN-N48_EP5.15x5.15mm; Supplier: http://www.ti.com/lit/ds/symlink/msp430f5242.pdf
footprint Texas_S-PVQFN-N48_EP5.15x5.15mm
pins: 1 P6.3/A3/CB3 (io), 2 P6.4/A4/CB4 (io), 3 P6.5/A5/CB5 (io), 4 P5.0/A8/VeREF+ (io), 5 P5.1/A9/VeREF- (io), 6 AVCC (power), 7 P5.4/XIN (io), 8 P5.5/XOUT (io), 9 AVSS (power), 10 DVCC (power), 11 DVSS (power), 12 VCORE, 13 TA0CLK/ACLK/P1.0 (io), 14 TA0.0/P1.1 (io), 15 TA0.1/P1.2 (io), 16 TA0.2/P1.3 (io), 17 TA0.3/P1.4 (io), 18 TA0.4/P1.5 (io), 19 TA1CLK/CBOUT/P1.6 (io), 20 TA1.0/P1.7 (io), 21 UCB0STE/UCA0CLK/P2.7 (io), 22 UCB0SIMO/UCB0SDA/P3.0 (io), 23 UCB0SOMI/UCB0SCL/P3.1 (io), 24 UCB0CLK/UCA0STE/P3.2 (io), 25 UCA0TXD/UCA0SIMO/P3.3 (io), 26 UCA0RXD/UCA0SOMI/P3.4 (io), 27 DVSS (power), 28 DVCC (power), 29 PM_UCB1STE/PM_UCA1CLK/P4.0 (io), 30 PM_UCB1SIMO/PM_UCB1SDA/P4.1 (io), 31 PM_UCB1SOMI/PM_UCB1SCL/P4.2 (io), 32 PM_UCB1CLK/PM_UCA1STE/P4.3 (io), 33 PM_UCA1TXD/PM_UCA1SIMO/P4.4 (io), 34 PM_UCA1RXD/PM_UCA1SOMI/P4.5 (io), 35 P4.6 (io), 37 ~{{RST}/NMI} (in), 38 P5.2/XT2IN (io), 39 P5.3/XT2OUT (io), 40 SBWTCK/TEST (in), 41 PJ.0/TDO (io), 42 PJ.1/TDI/TCLK (io), 43 PJ.2/TMS (io), 44 PJ.3/TCK (io), 45 ~{{RSTDVCC}/SBWTDIO} (io), 46 P6.0/A0/CB0 (io), 47 P6.1/A1/CB1 (io), 48 P6.2/A2/CB2 (io)

## MSP430F5244IRGZ
designator *  value MSP430F5244IRGZ
ki_keywords: TI MSP430 16-bit mixed signal microcontroller; ki_description: 128kB Flash, 8kB RAM, QFN-48; ki_fp_filters: Texas*S?PVQFN*; Footprint: Package_DFN_QFN:Texas_S-PVQFN-N48_EP5.15x5.15mm; Supplier: http://www.ti.com/lit/ds/symlink/msp430f5244.pdf
footprint Texas_S-PVQFN-N48_EP5.15x5.15mm
pins: 1 P6.3/A3/CB3 (io), 2 P6.4/A4/CB4 (io), 3 P6.5/A5/CB5 (io), 4 P5.0/A8/VeREF+ (io), 5 P5.1/A9/VeREF- (io), 6 AVCC (power), 7 P5.4/XIN (io), 8 P5.5/XOUT (io), 9 AVSS (power), 10 DVCC (power), 11 DVSS (power), 12 VCORE, 13 TA0CLK/ACLK/P1.0 (io), 14 TA0.0/P1.1 (io), 15 TA0.1/P1.2 (io), 16 TA0.2/P1.3 (io), 17 TA0.3/P1.4 (io), 18 TA0.4/P1.5 (io), 19 TA1CLK/CBOUT/P1.6 (io), 20 TA1.0/P1.7 (io), 21 UCB0STE/UCA0CLK/P2.7 (io), 22 UCB0SIMO/UCB0SDA/P3.0 (io), 23 UCB0SOMI/UCB0SCL/P3.1 (io), 24 UCB0CLK/UCA0STE/P3.2 (io), 25 UCA0TXD/UCA0SIMO/P3.3 (io), 26 UCA0RXD/UCA0SOMI/P3.4 (io), 27 DVSS (power), 28 DVCC (power), 29 PM_UCB1STE/PM_UCA1CLK/P4.0 (io), 30 PM_UCB1SIMO/PM_UCB1SDA/P4.1 (io), 31 PM_UCB1SOMI/PM_UCB1SCL/P4.2 (io), 32 PM_UCB1CLK/PM_UCA1STE/P4.3 (io), 33 PM_UCA1TXD/PM_UCA1SIMO/P4.4 (io), 34 PM_UCA1RXD/PM_UCA1SOMI/P4.5 (io), 35 P4.6 (io), 37 ~{{RST}/NMI} (in), 38 P5.2/XT2IN (io), 39 P5.3/XT2OUT (io), 40 SBWTCK/TEST (in), 41 PJ.0/TDO (io), 42 PJ.1/TDI/TCLK (io), 43 PJ.2/TMS (io), 44 PJ.3/TCK (io), 45 ~{{RSTDVCC}/SBWTDIO} (io), 46 P6.0/A0/CB0 (io), 47 P6.1/A1/CB1 (io), 48 P6.2/A2/CB2 (io)

## MSP430F5247IRGC
designator *  value MSP430F5247IRGC
ki_keywords: TI MSP430 16-bit mixed signal microcontroller; ki_description: 64kB Flash, 8kB RAM, QFN-64; ki_fp_filters: Texas*S?PVQFN*; Footprint: Package_DFN_QFN:Texas_S-PVQFN-N64_EP4.25x4.25mm; Supplier: http://www.ti.com/lit/ds/symlink/msp430f5247.pdf
footprint Texas_S-PVQFN-N64_EP4.25x4.25mm
pins: 1 P6.0/CB0/A0 (io), 2 P6.1/CB1/A1 (io), 3 P6.2/CB2/A2 (io), 4 P6.3/CB3/A3 (io), 5 P6.4/CB4/A4 (io), 6 P6.5/CB5/A5 (io), 7 P6.6/CB6/A6 (io), 8 P6.7/CB7/A7 (io), 9 P5.0/A8/VeREF+ (io), 10 P5.1/A9/VeREF- (io), 11 AVCC (power), 12 P5.4/XIN (io), 13 P5.5/XOUT (io), 14 AVSS (power), 15 DVCC (power), 16 DVSS (power), 17 VCORE (power), 18 ACLK/TA0CLK/P1.0 (io), 19 TA0.0/P1.1 (io), 20 TA0.1/P1.2 (io), 21 TA0.2/P1.3 (io), 22 TA0.3/P1.4 (io), 23 TA0.4/P1.5 (io), 24 CBOUT/TA1CLK/P1.6 (io), 25 TA1.0/P1.7 (io), 26 TA1.1/P2.0 (io), 27 TA1.2/P2.1 (io), 28 SMCLK/TA2CLK/P2.2 (io), 29 TA2.0/P2.3 (io), 30 TA2.1/P2.4 (io), 31 TA2.2/P2.5 (io), 32 RTCCLK/DMAE0/P2.6 (io), 33 UCB0STE/UCA0CLK/P2.7 (io), 34 UCB0SIMO/UCB0SDA/P3.0 (io), 35 UCB0SOMI/UCB0SCL/P3.1 (io), 36 UCB0CLK/UCA0STE/P3.2 (io), 37 UCA0TXD/UCA0SIMO/P3.3 (io), 38 UCA0RXD/UCA0SOMI/P3.4 (io), 39 DVSS (power), 40 DVCC (power), 41 PM_UCB1STE/PM_UCA1CLK/P4.0 (io), 42 PM_UCB1SIMO/PM_UCB1SDA/P4.1 (io), 43 PM_UCB1SOMI/PM_UCB1SCL/P4.2 (io), 44 PM_UCB1CLK/PM_UCA1STE/P4.3 (io), 45 PM_UCA1TXD/PM_UCA1SIMO/P4.4 (io), 46 PM_UCA1RXD/PM_UCA1SOMI/P4.5 (io), 47 P4.6 (io), 48 P4.7 (io), 49 P7.0/TB0.0 (io), 50 P7.1/TB0.1 (io), 51 P7.2/TB0.2 (io), 52 P7.3/TB0.3 (io), 53 P7.4/TB0.4 (io), 54 P7.5/TB0.5 (io), 56 ~{{RST}/NMI} (in), 57 P5.2/XT2IN (io), 58 P5.3/XT2OUT (io), 59 SBWTCK/TEST (in), 60 PJ.0/TDO (io), 61 PJ.1/TDI/TCLK (io), 62 PJ.2/TMS (io), 63 PJ.3/TCK (io), 64 ~{{RSTDVCC}/SBWTDIO} (io)

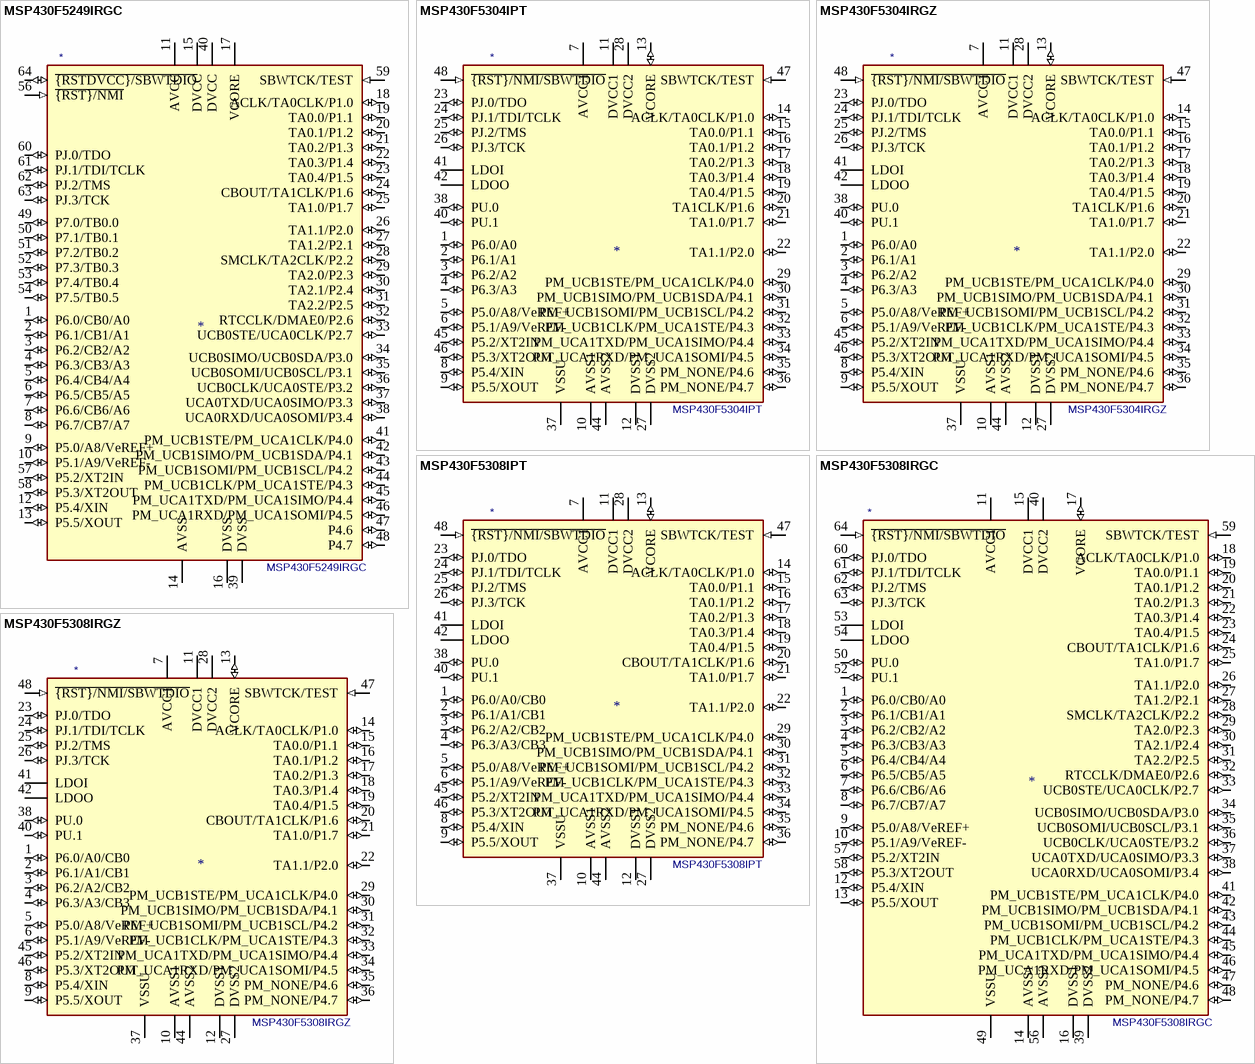
[diagram p10: symbols MSP430F5249IRGC to MSP430F5308IRGZ]

## MSP430F5249IRGC
designator *  value MSP430F5249IRGC
ki_keywords: TI MSP430 16-bit mixed signal microcontroller; ki_description: 128kB Flash, 8kB RAM, QFN-64; ki_fp_filters: Texas*S?PVQFN*; Footprint: Package_DFN_QFN:Texas_S-PVQFN-N64_EP4.25x4.25mm; Supplier: http://www.ti.com/lit/ds/symlink/msp430f5249.pdf
footprint Texas_S-PVQFN-N64_EP4.25x4.25mm
pins: 1 P6.0/CB0/A0 (io), 2 P6.1/CB1/A1 (io), 3 P6.2/CB2/A2 (io), 4 P6.3/CB3/A3 (io), 5 P6.4/CB4/A4 (io), 6 P6.5/CB5/A5 (io), 7 P6.6/CB6/A6 (io), 8 P6.7/CB7/A7 (io), 9 P5.0/A8/VeREF+ (io), 10 P5.1/A9/VeREF- (io), 11 AVCC (power), 12 P5.4/XIN (io), 13 P5.5/XOUT (io), 14 AVSS (power), 15 DVCC (power), 16 DVSS (power), 17 VCORE (power), 18 ACLK/TA0CLK/P1.0 (io), 19 TA0.0/P1.1 (io), 20 TA0.1/P1.2 (io), 21 TA0.2/P1.3 (io), 22 TA0.3/P1.4 (io), 23 TA0.4/P1.5 (io), 24 CBOUT/TA1CLK/P1.6 (io), 25 TA1.0/P1.7 (io), 26 TA1.1/P2.0 (io), 27 TA1.2/P2.1 (io), 28 SMCLK/TA2CLK/P2.2 (io), 29 TA2.0/P2.3 (io), 30 TA2.1/P2.4 (io), 31 TA2.2/P2.5 (io), 32 RTCCLK/DMAE0/P2.6 (io), 33 UCB0STE/UCA0CLK/P2.7 (io), 34 UCB0SIMO/UCB0SDA/P3.0 (io), 35 UCB0SOMI/UCB0SCL/P3.1 (io), 36 UCB0CLK/UCA0STE/P3.2 (io), 37 UCA0TXD/UCA0SIMO/P3.3 (io), 38 UCA0RXD/UCA0SOMI/P3.4 (io), 39 DVSS (power), 40 DVCC (power), 41 PM_UCB1STE/PM_UCA1CLK/P4.0 (io), 42 PM_UCB1SIMO/PM_UCB1SDA/P4.1 (io), 43 PM_UCB1SOMI/PM_UCB1SCL/P4.2 (io), 44 PM_UCB1CLK/PM_UCA1STE/P4.3 (io), 45 PM_UCA1TXD/PM_UCA1SIMO/P4.4 (io), 46 PM_UCA1RXD/PM_UCA1SOMI/P4.5 (io), 47 P4.6 (io), 48 P4.7 (io), 49 P7.0/TB0.0 (io), 50 P7.1/TB0.1 (io), 51 P7.2/TB0.2 (io), 52 P7.3/TB0.3 (io), 53 P7.4/TB0.4 (io), 54 P7.5/TB0.5 (io), 56 ~{{RST}/NMI} (in), 57 P5.2/XT2IN (io), 58 P5.3/XT2OUT (io), 59 SBWTCK/TEST (in), 60 PJ.0/TDO (io), 61 PJ.1/TDI/TCLK (io), 62 PJ.2/TMS (io), 63 PJ.3/TCK (io), 64 ~{{RSTDVCC}/SBWTDIO} (io)

## MSP430F5304IPT
designator *  value MSP430F5304IPT
ki_keywords: TI MSP430 16-bit mixed signal microcontroller; ki_description: 8kB Flash, 6kB RAM, LQFP-48; ki_fp_filters: LQFP*7x7mm*P0.5mm*; Footprint: Package_QFP:LQFP-48_7x7mm_P0.5mm; Supplier: http://www.ti.com/lit/ds/symlink/msp430f5304.pdf
footprint LQFP-48_7x7mm_P0.5mm
pins: 1 P6.0/A0 (io), 2 P6.1/A1 (io), 3 P6.2/A2 (io), 4 P6.3/A3 (io), 5 P5.0/A8/VeREF+ (io), 6 P5.1/A9/VeREF- (io), 7 AVCC1 (power), 8 P5.4/XIN (io), 9 P5.5/XOUT (io), 10 AVSS1 (power), 11 DVCC1 (power), 12 DVSS1 (power), 13 VCORE (io), 14 ACLK/TA0CLK/P1.0 (io), 15 TA0.0/P1.1 (io), 16 TA0.1/P1.2 (io), 17 TA0.2/P1.3 (io), 18 TA0.3/P1.4 (io), 19 TA0.4/P1.5 (io), 20 TA1CLK/P1.6 (io), 21 TA1.0/P1.7 (io), 22 TA1.1/P2.0 (io), 23 PJ.0/TDO (io), 24 PJ.1/TDI/TCLK (io), 25 PJ.2/TMS (io), 26 PJ.3/TCK (io), 27 DVSS2 (power), 28 DVCC2 (power), 29 PM_UCB1STE/PM_UCA1CLK/P4.0 (io), 30 PM_UCB1SIMO/PM_UCB1SDA/P4.1 (io), 31 PM_UCB1SOMI/PM_UCB1SCL/P4.2 (io), 32 PM_UCB1CLK/PM_UCA1STE/P4.3 (io), 33 PM_UCA1TXD/PM_UCA1SIMO/P4.4 (io), 34 PM_UCA1RXD/PM_UCA1SOMI/P4.5 (io), 35 PM_NONE/P4.6 (io), 36 PM_NONE/P4.7 (io), 37 VSSU (power), 38 PU.0 (io), 40 PU.1 (io), 41 LDOI (power), 42 LDOO (power), 44 AVSS2 (power), 45 P5.2/XT2IN (io), 46 P5.3/XT2OUT (io), 47 SBWTCK/TEST (in), 48 ~{{RST}/NMI/SBWTDIO} (in)

## MSP430F5304IRGZ
designator *  value MSP430F5304IRGZ
ki_keywords: TI MSP430 16-bit mixed signal microcontroller; ki_description: 8kB Flash, 6kB RAM, QFN-48; ki_fp_filters: Texas*S?PVQFN*; Footprint: Package_DFN_QFN:Texas_S-PVQFN-N48_EP5.15x5.15mm; Supplier: http://www.ti.com/lit/ds/symlink/msp430f5304.pdf
footprint Texas_S-PVQFN-N48_EP5.15x5.15mm
pins: 1 P6.0/A0 (io), 2 P6.1/A1 (io), 3 P6.2/A2 (io), 4 P6.3/A3 (io), 5 P5.0/A8/VeREF+ (io), 6 P5.1/A9/VeREF- (io), 7 AVCC1 (power), 8 P5.4/XIN (io), 9 P5.5/XOUT (io), 10 AVSS1 (power), 11 DVCC1 (power), 12 DVSS1 (power), 13 VCORE (io), 14 ACLK/TA0CLK/P1.0 (io), 15 TA0.0/P1.1 (io), 16 TA0.1/P1.2 (io), 17 TA0.2/P1.3 (io), 18 TA0.3/P1.4 (io), 19 TA0.4/P1.5 (io), 20 TA1CLK/P1.6 (io), 21 TA1.0/P1.7 (io), 22 TA1.1/P2.0 (io), 23 PJ.0/TDO (io), 24 PJ.1/TDI/TCLK (io), 25 PJ.2/TMS (io), 26 PJ.3/TCK (io), 27 DVSS2 (power), 28 DVCC2 (power), 29 PM_UCB1STE/PM_UCA1CLK/P4.0 (io), 30 PM_UCB1SIMO/PM_UCB1SDA/P4.1 (io), 31 PM_UCB1SOMI/PM_UCB1SCL/P4.2 (io), 32 PM_UCB1CLK/PM_UCA1STE/P4.3 (io), 33 PM_UCA1TXD/PM_UCA1SIMO/P4.4 (io), 34 PM_UCA1RXD/PM_UCA1SOMI/P4.5 (io), 35 PM_NONE/P4.6 (io), 36 PM_NONE/P4.7 (io), 37 VSSU (power), 38 PU.0 (io), 40 PU.1 (io), 41 LDOI (power), 42 LDOO (power), 44 AVSS2 (power), 45 P5.2/XT2IN (io), 46 P5.3/XT2OUT (io), 47 SBWTCK/TEST (in), 48 ~{{RST}/NMI/SBWTDIO} (in)

## MSP430F5308IPT
designator *  value MSP430F5308IPT
ki_keywords: TI MSP430 16-bit mixed signal microcontroller; ki_description: 16kB Flash, 6kB RAM, LQFP-48; ki_fp_filters: LQFP*7x7mm*P0.5mm*; Footprint: Package_QFP:LQFP-48_7x7mm_P0.5mm; Supplier: http://www.ti.com/lit/ds/symlink/msp430f5308.pdf
footprint LQFP-48_7x7mm_P0.5mm
pins: 1 P6.0/A0/CB0 (io), 2 P6.1/A1/CB1 (io), 3 P6.2/A2/CB2 (io), 4 P6.3/A3/CB3 (io), 5 P5.0/A8/VeREF+ (io), 6 P5.1/A9/VeREF- (io), 7 AVCC1 (power), 8 P5.4/XIN (io), 9 P5.5/XOUT (io), 10 AVSS1 (power), 11 DVCC1 (power), 12 DVSS1 (power), 13 VCORE (io), 14 ACLK/TA0CLK/P1.0 (io), 15 TA0.0/P1.1 (io), 16 TA0.1/P1.2 (io), 17 TA0.2/P1.3 (io), 18 TA0.3/P1.4 (io), 19 TA0.4/P1.5 (io), 20 CBOUT/TA1CLK/P1.6 (io), 21 TA1.0/P1.7 (io), 22 TA1.1/P2.0 (io), 23 PJ.0/TDO (io), 24 PJ.1/TDI/TCLK (io), 25 PJ.2/TMS (io), 26 PJ.3/TCK (io), 27 DVSS2 (power), 28 DVCC2 (power), 29 PM_UCB1STE/PM_UCA1CLK/P4.0 (io), 30 PM_UCB1SIMO/PM_UCB1SDA/P4.1 (io), 31 PM_UCB1SOMI/PM_UCB1SCL/P4.2 (io), 32 PM_UCB1CLK/PM_UCA1STE/P4.3 (io), 33 PM_UCA1TXD/PM_UCA1SIMO/P4.4 (io), 34 PM_UCA1RXD/PM_UCA1SOMI/P4.5 (io), 35 PM_NONE/P4.6 (io), 36 PM_NONE/P4.7 (io), 37 VSSU (power), 38 PU.0 (io), 40 PU.1 (io), 41 LDOI (power), 42 LDOO (power), 44 AVSS2 (power), 45 P5.2/XT2IN (io), 46 P5.3/XT2OUT (io), 47 SBWTCK/TEST (in), 48 ~{{RST}/NMI/SBWTDIO} (in)

## MSP430F5308IRGC
designator *  value MSP430F5308IRGC
ki_keywords: TI MSP430 16-bit mixed signal microcontroller; ki_description: 16kB Flash, 6kB RAM, QFN-64; ki_fp_filters: Texas*S?PVQFN*; Footprint: Package_DFN_QFN:Texas_S-PVQFN-N64_EP4.25x4.25mm; Supplier: http://www.ti.com/lit/ds/symlink/msp430f5308.pdf
footprint Texas_S-PVQFN-N64_EP4.25x4.25mm
pins: 1 P6.0/CB0/A0 (io), 2 P6.1/CB1/A1 (io), 3 P6.2/CB2/A2 (io), 4 P6.3/CB3/A3 (io), 5 P6.4/CB4/A4 (io), 6 P6.5/CB5/A5 (io), 7 P6.6/CB6/A6 (io), 8 P6.7/CB7/A7 (io), 9 P5.0/A8/VeREF+ (io), 10 P5.1/A9/VeREF- (io), 11 AVCC1 (power), 12 P5.4/XIN (io), 13 P5.5/XOUT (io), 14 AVSS1 (power), 15 DVCC1 (power), 16 DVSS1 (power), 17 VCORE (io), 18 ACLK/TA0CLK/P1.0 (io), 19 TA0.0/P1.1 (io), 20 TA0.1/P1.2 (io), 21 TA0.2/P1.3 (io), 22 TA0.3/P1.4 (io), 23 TA0.4/P1.5 (io), 24 CBOUT/TA1CLK/P1.6 (io), 25 TA1.0/P1.7 (io), 26 TA1.1/P2.0 (io), 27 TA1.2/P2.1 (io), 28 SMCLK/TA2CLK/P2.2 (io), 29 TA2.0/P2.3 (io), 30 TA2.1/P2.4 (io), 31 TA2.2/P2.5 (io), 32 RTCCLK/DMAE0/P2.6 (io), 33 UCB0STE/UCA0CLK/P2.7 (io), 34 UCB0SIMO/UCB0SDA/P3.0 (io), 35 UCB0SOMI/UCB0SCL/P3.1 (io), 36 UCB0CLK/UCA0STE/P3.2 (io), 37 UCA0TXD/UCA0SIMO/P3.3 (io), 38 UCA0RXD/UCA0SOMI/P3.4 (io), 39 DVSS2 (power), 40 DVCC2 (power), 41 PM_UCB1STE/PM_UCA1CLK/P4.0 (io), 42 PM_UCB1SIMO/PM_UCB1SDA/P4.1 (io), 43 PM_UCB1SOMI/PM_UCB1SCL/P4.2 (io), 44 PM_UCB1CLK/PM_UCA1STE/P4.3 (io), 45 PM_UCA1TXD/PM_UCA1SIMO/P4.4 (io), 46 PM_UCA1RXD/PM_UCA1SOMI/P4.5 (io), 47 PM_NONE/P4.6 (io), 48 PM_NONE/P4.7 (io), 49 VSSU (power), 50 PU.0 (io), 52 PU.1 (io), 53 LDOI (power), 54 LDOO (power), 56 AVSS2 (power), 57 P5.2/XT2IN (io), 58 P5.3/XT2OUT (io), 59 SBWTCK/TEST (in), 60 PJ.0/TDO (io), 61 PJ.1/TDI/TCLK (io), 62 PJ.2/TMS (io), 63 PJ.3/TCK (io), 64 ~{{RST}/NMI/SBWTDIO} (in)

## MSP430F5308IRGZ
designator *  value MSP430F5308IRGZ
ki_keywords: TI MSP430 16-bit mixed signal microcontroller; ki_description: 16kB Flash, 6kB RAM, QFN-48; ki_fp_filters: Texas*S?PVQFN*; Footprint: Package_DFN_QFN:Texas_S-PVQFN-N48_EP5.15x5.15mm; Supplier: http://www.ti.com/lit/ds/symlink/msp430f5308.pdf
footprint Texas_S-PVQFN-N48_EP5.15x5.15mm
pins: 1 P6.0/A0/CB0 (io), 2 P6.1/A1/CB1 (io), 3 P6.2/A2/CB2 (io), 4 P6.3/A3/CB3 (io), 5 P5.0/A8/VeREF+ (io), 6 P5.1/A9/VeREF- (io), 7 AVCC1 (power), 8 P5.4/XIN (io), 9 P5.5/XOUT (io), 10 AVSS1 (power), 11 DVCC1 (power), 12 DVSS1 (power), 13 VCORE (io), 14 ACLK/TA0CLK/P1.0 (io), 15 TA0.0/P1.1 (io), 16 TA0.1/P1.2 (io), 17 TA0.2/P1.3 (io), 18 TA0.3/P1.4 (io), 19 TA0.4/P1.5 (io), 20 CBOUT/TA1CLK/P1.6 (io), 21 TA1.0/P1.7 (io), 22 TA1.1/P2.0 (io), 23 PJ.0/TDO (io), 24 PJ.1/TDI/TCLK (io), 25 PJ.2/TMS (io), 26 PJ.3/TCK (io), 27 DVSS2 (power), 28 DVCC2 (power), 29 PM_UCB1STE/PM_UCA1CLK/P4.0 (io), 30 PM_UCB1SIMO/PM_UCB1SDA/P4.1 (io), 31 PM_UCB1SOMI/PM_UCB1SCL/P4.2 (io), 32 PM_UCB1CLK/PM_UCA1STE/P4.3 (io), 33 PM_UCA1TXD/PM_UCA1SIMO/P4.4 (io), 34 PM_UCA1RXD/PM_UCA1SOMI/P4.5 (io), 35 PM_NONE/P4.6 (io), 36 PM_NONE/P4.7 (io), 37 VSSU (power), 38 PU.0 (io), 40 PU.1 (io), 41 LDOI (power), 42 LDOO (power), 44 AVSS2 (power), 45 P5.2/XT2IN (io), 46 P5.3/XT2OUT (io), 47 SBWTCK/TEST (in), 48 ~{{RST}/NMI/SBWTDIO} (in)

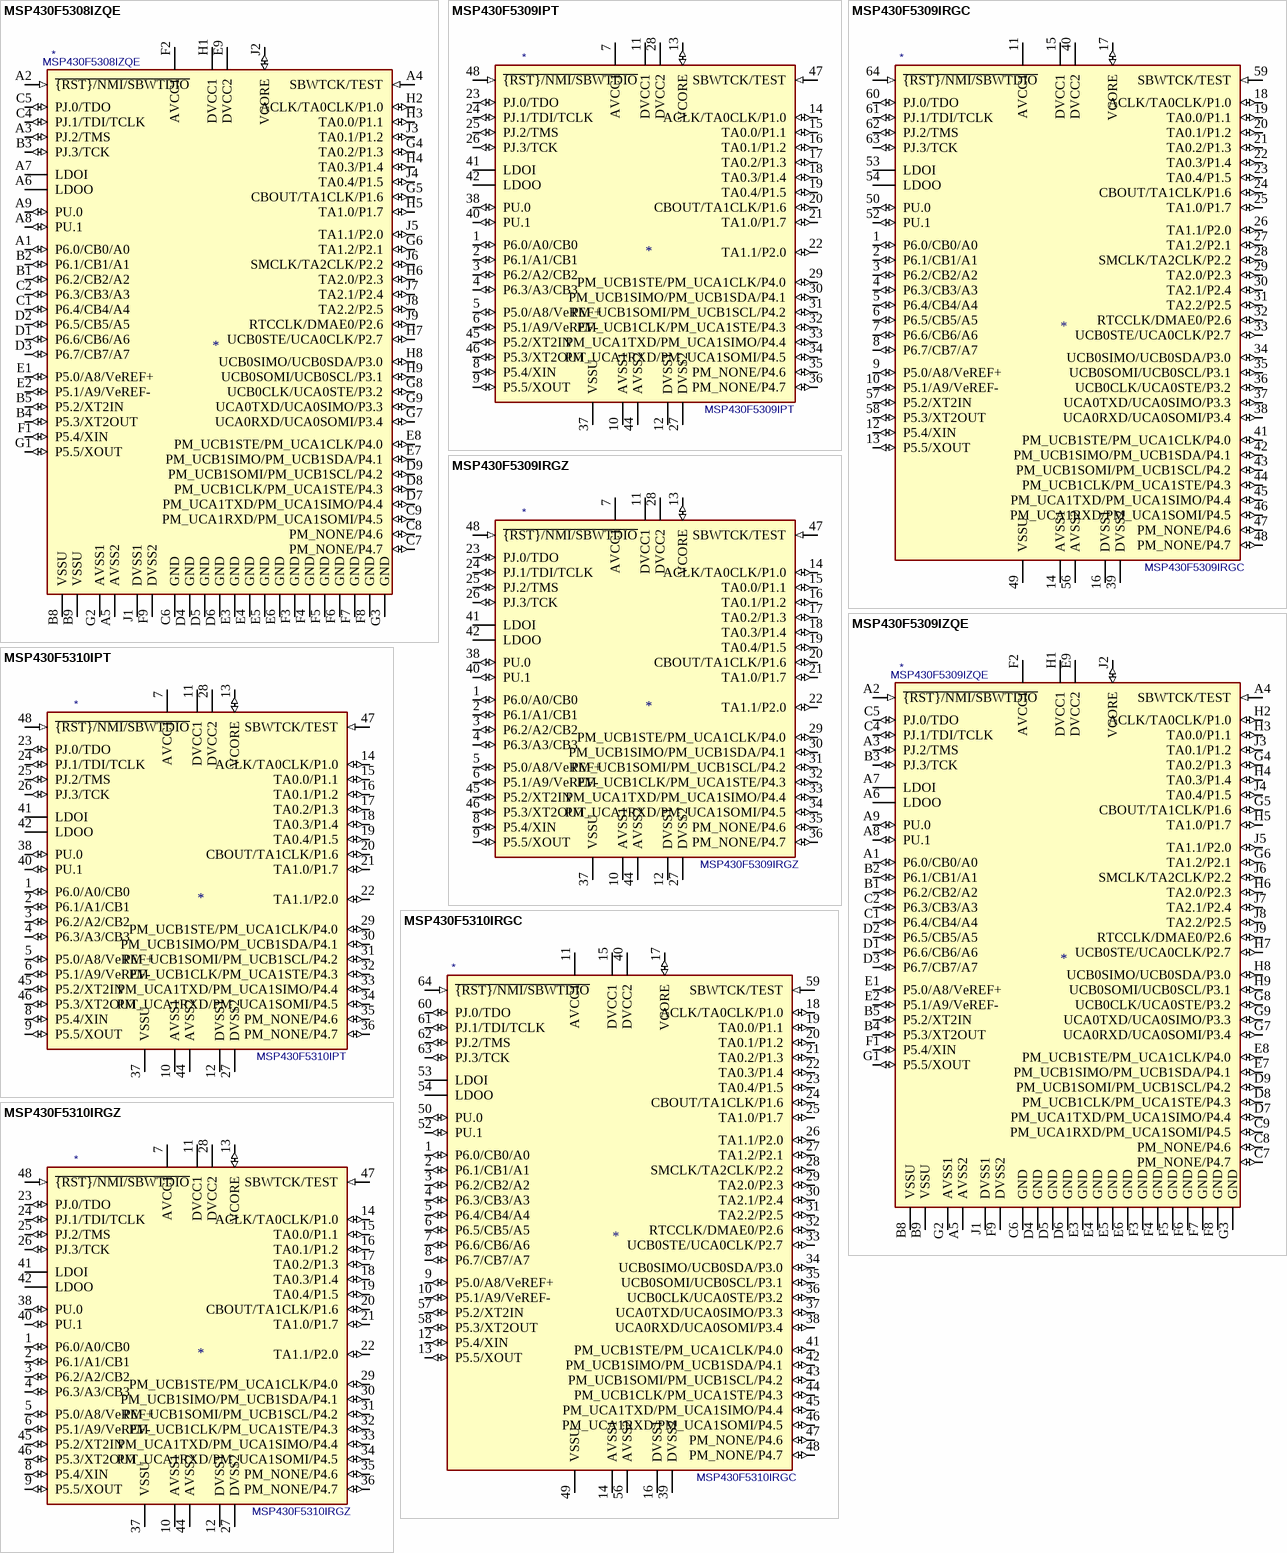
[diagram p11: symbols MSP430F5308IZQE to MSP430F5310IRGZ]

## MSP430F5308IZQE
designator *  value MSP430F5308IZQE
ki_keywords: TI MSP430 16-bit mixed signal microcontroller; ki_description: 16kB Flash, 6kB RAM, BGA-80; ki_fp_filters: Texas*MicroStar*Junior*BGA*5.0x5.0mm*Layout9x9*P0.5mm*; Footprint: Package_BGA:Texas_MicroStar_Junior_BGA-80_5.0x5.0mm_Layout9x9_P0.5mm; Supplier: http://www.ti.com/lit/ds/symlink/msp430f5308.pdf
footprint Texas_MicroStar_Junior_BGA-80_5.0x5.0mm_Layout9x9_P0.5mm
pins: A1 P6.0/CB0/A0 (io), A2 ~{{RST}/NMI/SBWTDIO} (in), A3 PJ.2/TMS (io), A4 SBWTCK/TEST (in), A5 AVSS2 (power), A6 LDOO (power), A7 LDOI (power), A8 PU.1 (io), A9 PU.0 (io), B1 P6.2/CB2/A2 (io), B2 P6.1/CB1/A1 (io), B3 PJ.3/TCK (io), B4 P5.3/XT2OUT (io), B5 P5.2/XT2IN (io), B8 VSSU (power), B9 VSSU (power), C1 P6.4/CB4/A4 (io), C2 P6.3/CB3/A3 (io), C4 PJ.1/TDI/TCLK (io), C5 PJ.0/TDO (io), C6 GND (power), C7 PM_NONE/P4.7 (io), C8 PM_NONE/P4.6 (io), C9 PM_UCA1RXD/PM_UCA1SOMI/P4.5 (io), D1 P6.6/CB6/A6 (io), D2 P6.5/CB5/A5 (io), D3 P6.7/CB7/A7 (io), D4 GND (power), D5 GND (power), D6 GND (power), D7 PM_UCA1TXD/PM_UCA1SIMO/P4.4 (io), D8 PM_UCB1CLK/PM_UCA1STE/P4.3 (io), D9 PM_UCB1SOMI/PM_UCB1SCL/P4.2 (io), E1 P5.0/A8/VeREF+ (io), E2 P5.1/A9/VeREF- (io), E3 GND (power), E4 GND (power), E5 GND (power), E6 GND (power), E7 PM_UCB1SIMO/PM_UCB1SDA/P4.1 (io), E8 PM_UCB1STE/PM_UCA1CLK/P4.0 (io), E9 DVCC2 (power), F1 P5.4/XIN (io), F2 AVCC1 (power), F3 GND (power), F4 GND (power), F5 GND (power), F6 GND (power), F7 GND (power), F8 GND (power), F9 DVSS2 (power), G1 P5.5/XOUT (io), G2 AVSS1 (power), G3 GND (power), G4 TA0.2/P1.3 (io), G5 CBOUT/TA1CLK/P1.6 (io), G6 TA1.2/P2.1 (io), G7 UCA0RXD/UCA0SOMI/P3.4 (io), G8 UCB0CLK/UCA0STE/P3.2 (io), G9 UCA0TXD/UCA0SIMO/P3.3 (io), H1 DVCC1 (power), H2 ACLK/TA0CLK/P1.0 (io), H3 TA0.0/P1.1 (io), H4 TA0.3/P1.4 (io), H5 TA1.0/P1.7 (io), H6 TA2.0/P2.3 (io), H7 UCB0STE/UCA0CLK/P2.7 (io), H8 UCB0SIMO/UCB0SDA/P3.0 (io), H9 UCB0SOMI/UCB0SCL/P3.1 (io), J1 DVSS1 (power), J2 VCORE (io), J3 TA0.1/P1.2 (io), J4 TA0.4/P1.5 (io), J5 TA1.1/P2.0 (io), J6 SMCLK/TA2CLK/P2.2 (io), J7 TA2.1/P2.4 (io), J8 TA2.2/P2.5 (io), J9 RTCCLK/DMAE0/P2.6 (io)

## MSP430F5309IPT
designator *  value MSP430F5309IPT
ki_keywords: TI MSP430 16-bit mixed signal microcontroller; ki_description: 24kB Flash, 6kB RAM, LQFP-48; ki_fp_filters: LQFP*7x7mm*P0.5mm*; Footprint: Package_QFP:LQFP-48_7x7mm_P0.5mm; Supplier: http://www.ti.com/lit/ds/symlink/msp430f5309.pdf
footprint LQFP-48_7x7mm_P0.5mm
pins: 1 P6.0/A0/CB0 (io), 2 P6.1/A1/CB1 (io), 3 P6.2/A2/CB2 (io), 4 P6.3/A3/CB3 (io), 5 P5.0/A8/VeREF+ (io), 6 P5.1/A9/VeREF- (io), 7 AVCC1 (power), 8 P5.4/XIN (io), 9 P5.5/XOUT (io), 10 AVSS1 (power), 11 DVCC1 (power), 12 DVSS1 (power), 13 VCORE (io), 14 ACLK/TA0CLK/P1.0 (io), 15 TA0.0/P1.1 (io), 16 TA0.1/P1.2 (io), 17 TA0.2/P1.3 (io), 18 TA0.3/P1.4 (io), 19 TA0.4/P1.5 (io), 20 CBOUT/TA1CLK/P1.6 (io), 21 TA1.0/P1.7 (io), 22 TA1.1/P2.0 (io), 23 PJ.0/TDO (io), 24 PJ.1/TDI/TCLK (io), 25 PJ.2/TMS (io), 26 PJ.3/TCK (io), 27 DVSS2 (power), 28 DVCC2 (power), 29 PM_UCB1STE/PM_UCA1CLK/P4.0 (io), 30 PM_UCB1SIMO/PM_UCB1SDA/P4.1 (io), 31 PM_UCB1SOMI/PM_UCB1SCL/P4.2 (io), 32 PM_UCB1CLK/PM_UCA1STE/P4.3 (io), 33 PM_UCA1TXD/PM_UCA1SIMO/P4.4 (io), 34 PM_UCA1RXD/PM_UCA1SOMI/P4.5 (io), 35 PM_NONE/P4.6 (io), 36 PM_NONE/P4.7 (io), 37 VSSU (power), 38 PU.0 (io), 40 PU.1 (io), 41 LDOI (power), 42 LDOO (power), 44 AVSS2 (power), 45 P5.2/XT2IN (io), 46 P5.3/XT2OUT (io), 47 SBWTCK/TEST (in), 48 ~{{RST}/NMI/SBWTDIO} (in)

## MSP430F5309IRGC
designator *  value MSP430F5309IRGC
ki_keywords: TI MSP430 16-bit mixed signal microcontroller; ki_description: 24kB Flash, 6kB RAM, QFN-64; ki_fp_filters: Texas*S?PVQFN*; Footprint: Package_DFN_QFN:Texas_S-PVQFN-N64_EP4.25x4.25mm; Supplier: http://www.ti.com/lit/ds/symlink/msp430f5309.pdf
footprint Texas_S-PVQFN-N64_EP4.25x4.25mm
pins: 1 P6.0/CB0/A0 (io), 2 P6.1/CB1/A1 (io), 3 P6.2/CB2/A2 (io), 4 P6.3/CB3/A3 (io), 5 P6.4/CB4/A4 (io), 6 P6.5/CB5/A5 (io), 7 P6.6/CB6/A6 (io), 8 P6.7/CB7/A7 (io), 9 P5.0/A8/VeREF+ (io), 10 P5.1/A9/VeREF- (io), 11 AVCC1 (power), 12 P5.4/XIN (io), 13 P5.5/XOUT (io), 14 AVSS1 (power), 15 DVCC1 (power), 16 DVSS1 (power), 17 VCORE (io), 18 ACLK/TA0CLK/P1.0 (io), 19 TA0.0/P1.1 (io), 20 TA0.1/P1.2 (io), 21 TA0.2/P1.3 (io), 22 TA0.3/P1.4 (io), 23 TA0.4/P1.5 (io), 24 CBOUT/TA1CLK/P1.6 (io), 25 TA1.0/P1.7 (io), 26 TA1.1/P2.0 (io), 27 TA1.2/P2.1 (io), 28 SMCLK/TA2CLK/P2.2 (io), 29 TA2.0/P2.3 (io), 30 TA2.1/P2.4 (io), 31 TA2.2/P2.5 (io), 32 RTCCLK/DMAE0/P2.6 (io), 33 UCB0STE/UCA0CLK/P2.7 (io), 34 UCB0SIMO/UCB0SDA/P3.0 (io), 35 UCB0SOMI/UCB0SCL/P3.1 (io), 36 UCB0CLK/UCA0STE/P3.2 (io), 37 UCA0TXD/UCA0SIMO/P3.3 (io), 38 UCA0RXD/UCA0SOMI/P3.4 (io), 39 DVSS2 (power), 40 DVCC2 (power), 41 PM_UCB1STE/PM_UCA1CLK/P4.0 (io), 42 PM_UCB1SIMO/PM_UCB1SDA/P4.1 (io), 43 PM_UCB1SOMI/PM_UCB1SCL/P4.2 (io), 44 PM_UCB1CLK/PM_UCA1STE/P4.3 (io), 45 PM_UCA1TXD/PM_UCA1SIMO/P4.4 (io), 46 PM_UCA1RXD/PM_UCA1SOMI/P4.5 (io), 47 PM_NONE/P4.6 (io), 48 PM_NONE/P4.7 (io), 49 VSSU (power), 50 PU.0 (io), 52 PU.1 (io), 53 LDOI (power), 54 LDOO (power), 56 AVSS2 (power), 57 P5.2/XT2IN (io), 58 P5.3/XT2OUT (io), 59 SBWTCK/TEST (in), 60 PJ.0/TDO (io), 61 PJ.1/TDI/TCLK (io), 62 PJ.2/TMS (io), 63 PJ.3/TCK (io), 64 ~{{RST}/NMI/SBWTDIO} (in)

## MSP430F5309IRGZ
designator *  value MSP430F5309IRGZ
ki_keywords: TI MSP430 16-bit mixed signal microcontroller; ki_description: 24kB Flash, 6kB RAM, QFN-48; ki_fp_filters: Texas*S?PVQFN*; Footprint: Package_DFN_QFN:Texas_S-PVQFN-N48_EP5.15x5.15mm; Supplier: http://www.ti.com/lit/ds/symlink/msp430f5309.pdf
footprint Texas_S-PVQFN-N48_EP5.15x5.15mm
pins: 1 P6.0/A0/CB0 (io), 2 P6.1/A1/CB1 (io), 3 P6.2/A2/CB2 (io), 4 P6.3/A3/CB3 (io), 5 P5.0/A8/VeREF+ (io), 6 P5.1/A9/VeREF- (io), 7 AVCC1 (power), 8 P5.4/XIN (io), 9 P5.5/XOUT (io), 10 AVSS1 (power), 11 DVCC1 (power), 12 DVSS1 (power), 13 VCORE (io), 14 ACLK/TA0CLK/P1.0 (io), 15 TA0.0/P1.1 (io), 16 TA0.1/P1.2 (io), 17 TA0.2/P1.3 (io), 18 TA0.3/P1.4 (io), 19 TA0.4/P1.5 (io), 20 CBOUT/TA1CLK/P1.6 (io), 21 TA1.0/P1.7 (io), 22 TA1.1/P2.0 (io), 23 PJ.0/TDO (io), 24 PJ.1/TDI/TCLK (io), 25 PJ.2/TMS (io), 26 PJ.3/TCK (io), 27 DVSS2 (power), 28 DVCC2 (power), 29 PM_UCB1STE/PM_UCA1CLK/P4.0 (io), 30 PM_UCB1SIMO/PM_UCB1SDA/P4.1 (io), 31 PM_UCB1SOMI/PM_UCB1SCL/P4.2 (io), 32 PM_UCB1CLK/PM_UCA1STE/P4.3 (io), 33 PM_UCA1TXD/PM_UCA1SIMO/P4.4 (io), 34 PM_UCA1RXD/PM_UCA1SOMI/P4.5 (io), 35 PM_NONE/P4.6 (io), 36 PM_NONE/P4.7 (io), 37 VSSU (power), 38 PU.0 (io), 40 PU.1 (io), 41 LDOI (power), 42 LDOO (power), 44 AVSS2 (power), 45 P5.2/XT2IN (io), 46 P5.3/XT2OUT (io), 47 SBWTCK/TEST (in), 48 ~{{RST}/NMI/SBWTDIO} (in)